# Altium integrated library Microchip PIC24F.IntLib: 529 symbols (part 27 of 32)
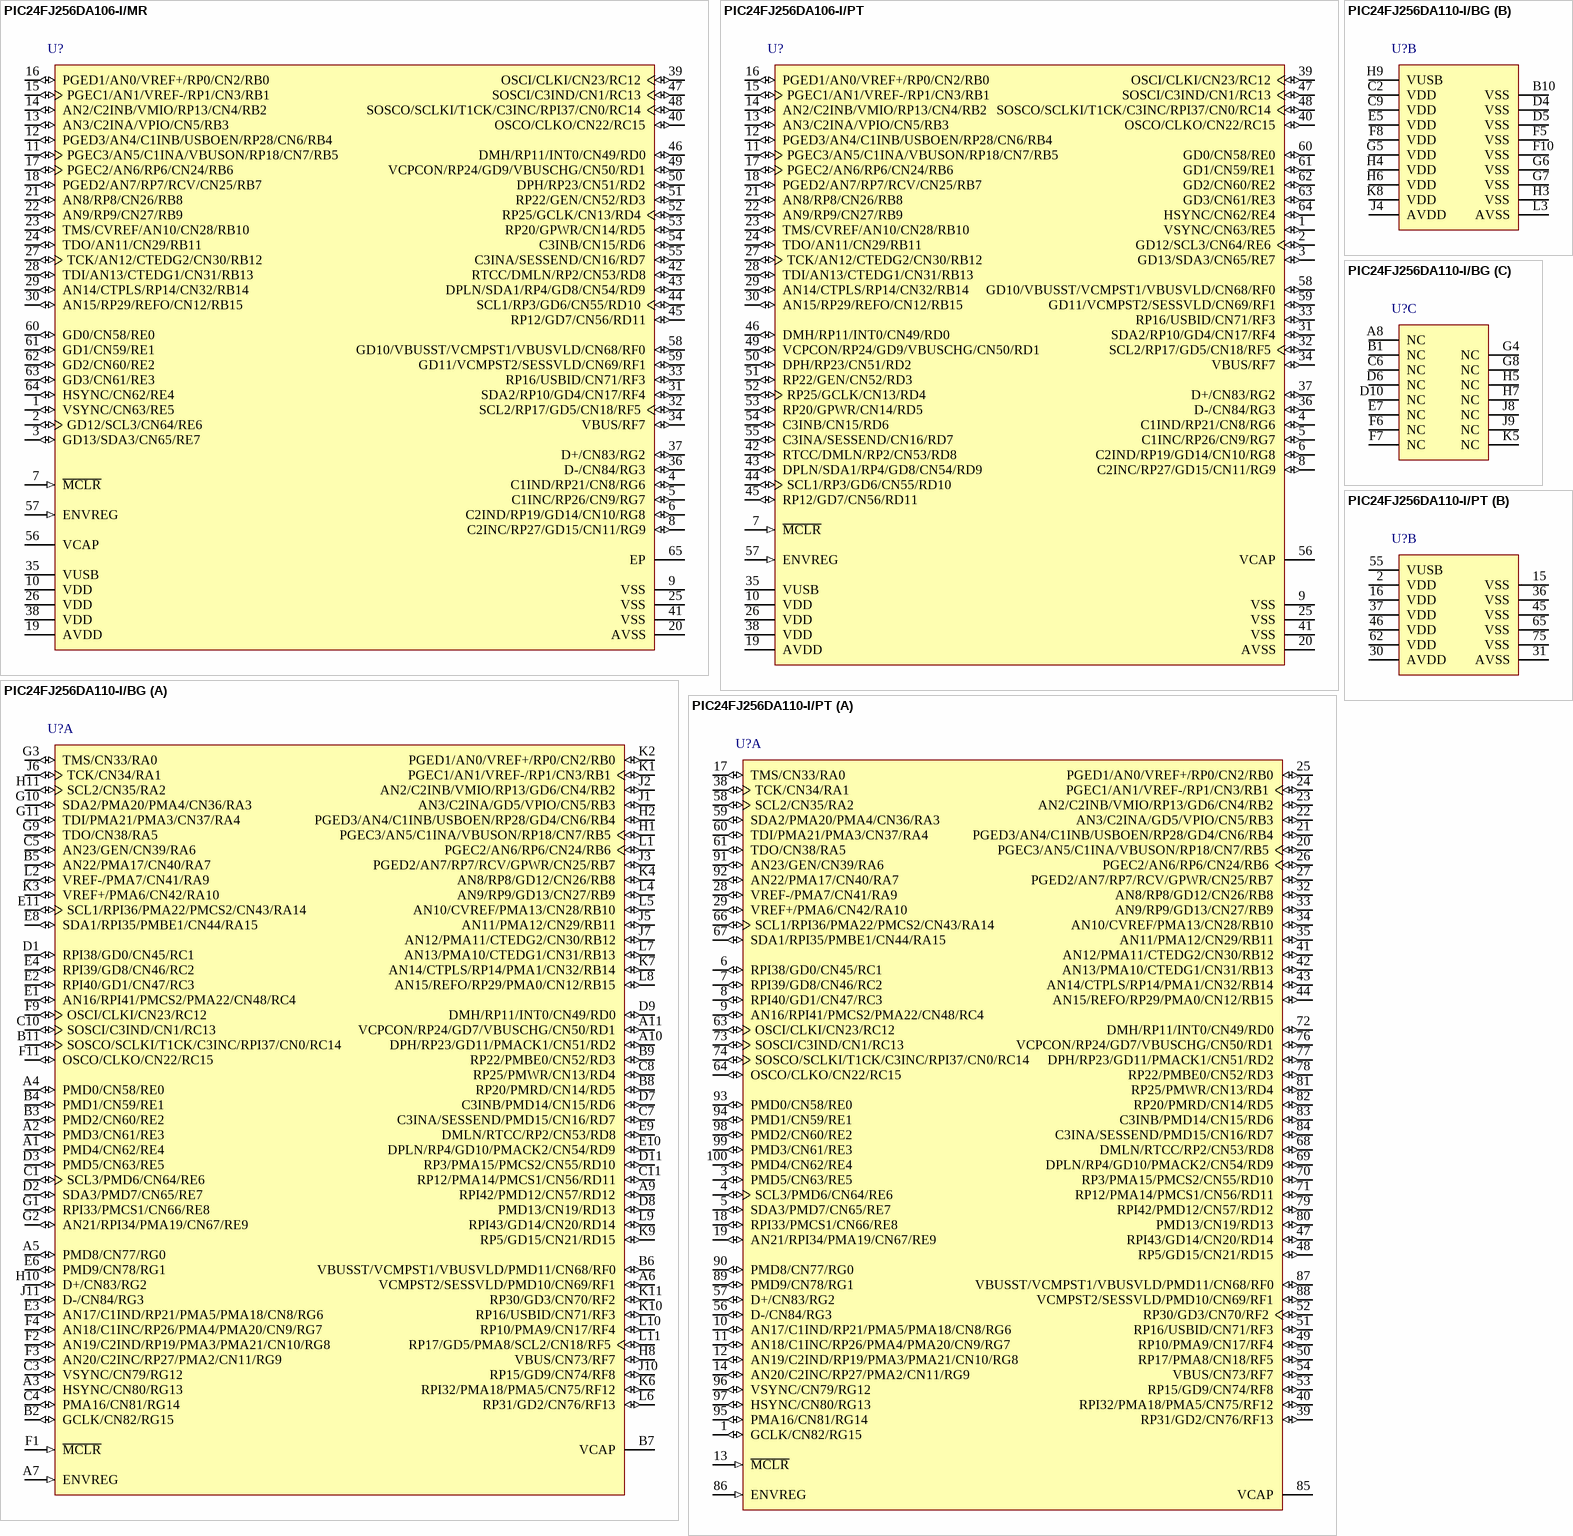
[diagram p147: symbols PIC24FJ256DA106-I/MR to PIC24FJ256DA110-I/PT]

## PIC24FJ256DA110-I/BG
designator U?
16-Bit Flash Microcontroller with Graphics Controller and USB On-The-Go, 16 MIPS, 84 I/O, EPMP, -40 to 85 degC, 121-pin TFBGA (BG121), Tray; Manufacturer: Microchip; PartNumber: PIC24FJ256DA110-I/BG; DatasheetVersion: Rev. B; PackageVersion: C04-148D; PackageReference: TFBGA-BG121; PackageDescription: 121-Ball Plastic Thin Profile Ball Grid Array, 10 x 10 mm Body, 0.8 mm Pitch; Supplier 1: Digi-Key; Supplier Part Number 1: PIC24FJ256DA110-I/BG-ND; Supplier 2: Farnell; Supplier Part Number 2: 1823276; Supplier 3: Mouser; Supplier Part Number 3: 579-PIC24FJ256DA110I; Mounting Technology: Surface Mount; ComponentLink1Description: Manufacturer URL; ComponentLink1URL: http://www.microchip.com; ComponentLink2Description: Datasheet; ComponentLink2URL: http://ww1.microchip.com/downloads/en/DeviceDoc/39969b.pdf; ComponentLink3Description: Package Specification; ComponentLink3URL: http://www.microchip.com/stellent/groups/techpub_sg/documents/packagingspec/en012702.pdf; ComponentLink4Description: Product URL; ComponentLink4URL: http://www.microchip.com/PIC24FJ256DA110
footprint MCHP-TFBGA-BG121 (BGA, 121-Balls, Body 10x10mm, Pitch 0.8mm)
part A pins: A1 PMD4/CN62/RE4 (io), A2 PMD3/CN61/RE3 (io), A3 HSYNC/CN80/RG13 (io), A4 PMD0/CN58/RE0 (io), A5 PMD8/CN77/RG0 (io), A6 VCMPST2/SESSVLD/PMD10/CN69/RF1 (io), A7 ENVREG (in), A9 RPI42/PMD12/CN57/RD12 (io), A10 DPH/RP23/GD11/PMACK1/CN51/RD2 (io), A11 VCPCON/RP24/GD7/VBUSCHG/CN50/RD1 (io), B2 GCLK/CN82/RG15 (io), B3 PMD2/CN60/RE2 (io), B4 PMD1/CN59/RE1 (io), B5 AN22/PMA17/CN40/RA7 (io), B6 VBUSST/VCMPST1/VBUSVLD/PMD11/CN68/RF0 (io), B7 VCAP "External Filter Capacitor Connection (regulator enabled).", B8 RP20/PMRD/CN14/RD5 (io), B9 RP22/PMBE0/CN52/RD3 (io), B11 SOSCO/SCLKI/T1CK/C3INC/RPI37/CN0/RC14 (io), C1 SCL3/PMD6/CN64/RE6 (io), C3 VSYNC/CN79/RG12 (io), C4 PMA16/CN81/RG14 (io), C5 AN23/GEN/CN39/RA6 (io), C7 C3INA/SESSEND/PMD15/CN16/RD7 (io), C8 RP25/PMWR/CN13/RD4 (io), C10 SOSCI/C3IND/CN1/RC13 (io), C11 RP12/PMA14/PMCS1/CN56/RD11 (io), D1 RPI38/GD0/CN45/RC1 (io), D2 SDA3/PMD7/CN65/RE7 (io), D3 PMD5/CN63/RE5 (io), D7 C3INB/PMD14/CN15/RD6 (io), D8 PMD13/CN19/RD13 (io), D9 DMH/RP11/INT0/CN49/RD0 (io), D11 RP3/PMA15/PMCS2/CN55/RD10 (io), E1 AN16/RPI41/PMCS2/PMA22/CN48/RC4 (io), E2 RPI40/GD1/CN47/RC3 (io), E3 AN17/C1IND/RP21/PMA5/PMA18/CN8/RG6 (io), E4 RPI39/GD8/CN46/RC2 (io), E6 PMD9/CN78/RG1 (io), E8 SDA1/RPI35/PMBE1/CN44/RA15 (io), E9 DMLN/RTCC/RP2/CN53/RD8 (io), E10 DPLN/RP4/GD10/PMACK2/CN54/RD9 (io), E11 SCL1/RPI36/PMA22/PMCS2/CN43/RA14 (io), F1 ~{MCLR} (in) "Master Clear (device Reset) Input. This line is brought low to cause a Reset.", F2 AN19/C2IND/RP19/PMA3/PMA21/CN10/RG8 (io), F3 AN20/C2INC/RP27/PMA2/CN11/RG9 (io), F4 AN18/C1INC/RP26/PMA4/PMA20/CN9/RG7 (io), F9 OSCI/CLKI/CN23/RC12 (io), F11 OSCO/CLKO/CN22/RC15 (io), G1 RPI33/PMCS1/CN66/RE8 (io), G2 AN21/RPI34/PMA19/CN67/RE9 (io), G3 TMS/CN33/RA0 (io), G9 TDO/CN38/RA5 (io), G10 SDA2/PMA20/PMA4/CN36/RA3 (io), G11 TDI/PMA21/PMA3/CN37/RA4 (io), H1 PGEC3/AN5/C1INA/VBUSON/RP18/CN7/RB5 (io), H2 PGED3/AN4/C1INB/USBOEN/RP28/GD4/CN6/RB4 (io), H8 VBUS/CN73/RF7 (io), H10 D+/CN83/RG2 (io), H11 SCL2/CN35/RA2 (io), J1 AN3/C2INA/GD5/VPIO/CN5/RB3 (io), J2 AN2/C2INB/VMIO/RP13/GD6/CN4/RB2 (io), J3 PGED2/AN7/RP7/RCV/GPWR/CN25/RB7 (io), J5 AN11/PMA12/CN29/RB11 (io), J6 TCK/CN34/RA1 (io), J7 AN12/PMA11/CTEDG2/CN30/RB12 (io), J10 RP15/GD9/CN74/RF8 (io), J11 D-/CN84/RG3 (io), K1 PGEC1/AN1/VREF-/RP1/CN3/RB1 (io), K2 PGED1/AN0/VREF+/RP0/CN2/RB0 (io), K3 VREF+/PMA6/CN42/RA10 (io), K4 AN8/RP8/GD12/CN26/RB8 (io), K6 RPI32/PMA18/PMA5/CN75/RF12 (io), K7 AN14/CTPLS/RP14/PMA1/CN32/RB14 (io), K9 RP5/GD15/CN21/RD15 (io), K10 RP16/USBID/CN71/RF3 (io), K11 RP30/GD3/CN70/RF2 (io), L1 PGEC2/AN6/RP6/CN24/RB6 (io), L2 VREF-/PMA7/CN41/RA9 (io), L4 AN9/RP9/GD13/CN27/RB9 (io), L5 AN10/CVREF/PMA13/CN28/RB10 (io), L6 RP31/GD2/CN76/RF13 (io), L7 AN13/PMA10/CTEDG1/CN31/RB13 (io), L8 AN15/REFO/RP29/PMA0/CN12/RB15 (io), L9 RPI43/GD14/CN20/RD14 (io), L10 RP10/PMA9/CN17/RF4 (io), L11 RP17/GD5/PMA8/SCL2/CN18/RF5 (io)
part B pins: B10 VSS (power) "Ground Reference for Logic and I/O Pins.", C2 VDD (power) "Positive Supply for Peripheral Digital Logic and I/O Pins.", C9 VDD (power) "Positive Supply for Peripheral Digital Logic and I/O Pins.", D4 VSS (power) "Ground Reference for Logic and I/O Pins.", D5 VSS (power) "Ground Reference for Logic and I/O Pins.", E5 VDD (power) "Positive Supply for Peripheral Digital Logic and I/O Pins.", F5 VSS (power) "Ground Reference for Logic and I/O Pins.", F8 VDD (power) "Positive Supply for Peripheral Digital Logic and I/O Pins.", F10 VSS (power) "Ground Reference for Logic and I/O Pins.", G5 VDD (power) "Positive Supply for Peripheral Digital Logic and I/O Pins.", G6 VSS (power) "Ground Reference for Logic and I/O Pins.", G7 VSS (power) "Ground Reference for Logic and I/O Pins.", H3 VSS (power) "Ground Reference for Logic and I/O Pins.", H4 VDD (power) "Positive Supply for Peripheral Digital Logic and I/O Pins.", H6 VDD (power) "Positive Supply for Peripheral Digital Logic and I/O Pins.", H9 VUSB (power) "USB Voltage (3.3V).", J4 AVDD (power) "Positive Supply for Analog modules.", K8 VDD (power) "Positive Supply for Peripheral Digital Logic and I/O Pins.", L3 AVSS "Ground Reference for Analog modules."
part C pins: A8 NC "No Connect", B1 NC "No Connect", C6 NC "No Connect", D6 NC "No Connect", D10 NC "No Connect", E7 NC "No Connect", F6 NC "No Connect", F7 NC "No Connect", G4 NC "No Connect", G8 NC "No Connect", H5 NC "No Connect", H7 NC "No Connect", J8 NC "No Connect", J9 NC "No Connect", K5 NC "No Connect"

## PIC24FJ256DA110-I/PT
designator U?
16-Bit Flash Microcontroller with Graphics Controller and USB On-The-Go, 16 MIPS, 84 I/O, EPMP, -40 to 85 degC, 100-pin TQFP (PT100), Tray; Manufacturer: Microchip; PartNumber: PIC24FJ256DA110-I/PT; DatasheetVersion: Rev. B; PackageVersion: C04-100B; PackageReference: TQFP-PT100; PackageDescription: 100-Lead Plastic Thin Quad Flatpack, 12 x 12 mm Body, 0.4 mm Pitch; Supplier 1: Digi-Key; Supplier Part Number 1: PIC24FJ256DA110-I/PT-ND; Supplier 2: Farnell; Supplier Part Number 2: 1823283; Supplier 3: Newark; Supplier Part Number 3: 73R8651; Supplier 4: Mouser; Supplier Part Number 4: 579-PIC24FJ256D10PT; Mounting Technology: Surface Mount; ComponentLink1Description: Manufacturer URL; ComponentLink1URL: http://www.microchip.com; ComponentLink2Description: Datasheet; ComponentLink2URL: http://ww1.microchip.com/downloads/en/DeviceDoc/39969b.pdf; ComponentLink3Description: Package Specification; ComponentLink3URL: http://www.microchip.com/stellent/groups/techpub_sg/documents/packagingspec/en012702.pdf; ComponentLink4Description: Product URL; ComponentLink4URL: http://www.microchip.com/PIC24FJ256DA110
footprint MCHP-TQFP-PT100_N (QFP, 100-Leads, Body 12x12mm, Pitch 0.4mm, IPC Medium Density)
footprint MCHP-TQFP-PT100_L (QFP, 100-Leads, Body 12x12mm, Pitch 0.4mm, IPC High Density)
footprint MCHP-TQFP-PT100_M (TQFP, 100-Leads, Body 12x12mm, Pitch 0.4mm, IPC Low Density)
part A pins: 1 GCLK/CN82/RG15 (io), 3 PMD5/CN63/RE5 (io), 4 SCL3/PMD6/CN64/RE6 (io), 5 SDA3/PMD7/CN65/RE7 (io), 6 RPI38/GD0/CN45/RC1 (io), 7 RPI39/GD8/CN46/RC2 (io), 8 RPI40/GD1/CN47/RC3 (io), 9 AN16/RPI41/PMCS2/PMA22/CN48/RC4 (io), 10 AN17/C1IND/RP21/PMA5/PMA18/CN8/RG6 (io), 11 AN18/C1INC/RP26/PMA4/PMA20/CN9/RG7 (io), 12 AN19/C2IND/RP19/PMA3/PMA21/CN10/RG8 (io), 13 ~{MCLR} (in) "Master Clear (device Reset) Input. This line is brought low to cause a Reset.", 14 AN20/C2INC/RP27/PMA2/CN11/RG9 (io), 17 TMS/CN33/RA0 (io), 18 RPI33/PMCS1/CN66/RE8 (io), 19 AN21/RPI34/PMA19/CN67/RE9 (io), 20 PGEC3/AN5/C1INA/VBUSON/RP18/CN7/RB5 (io), 21 PGED3/AN4/C1INB/USBOEN/RP28/GD4/CN6/RB4 (io), 22 AN3/C2INA/GD5/VPIO/CN5/RB3 (io), 23 AN2/C2INB/VMIO/RP13/GD6/CN4/RB2 (io), 24 PGEC1/AN1/VREF-/RP1/CN3/RB1 (io), 25 PGED1/AN0/VREF+/RP0/CN2/RB0 (io), 26 PGEC2/AN6/RP6/CN24/RB6 (io), 27 PGED2/AN7/RP7/RCV/GPWR/CN25/RB7 (io), 28 VREF-/PMA7/CN41/RA9 (io), 29 VREF+/PMA6/CN42/RA10 (io), 32 AN8/RP8/GD12/CN26/RB8 (io), 33 AN9/RP9/GD13/CN27/RB9 (io), 34 AN10/CVREF/PMA13/CN28/RB10 (io), 35 AN11/PMA12/CN29/RB11 (io), 38 TCK/CN34/RA1 (io), 39 RP31/GD2/CN76/RF13 (io), 40 RPI32/PMA18/PMA5/CN75/RF12 (io), 41 AN12/PMA11/CTEDG2/CN30/RB12 (io), 42 AN13/PMA10/CTEDG1/CN31/RB13 (io), 43 AN14/CTPLS/RP14/PMA1/CN32/RB14 (io), 44 AN15/REFO/RP29/PMA0/CN12/RB15 (io), 47 RPI43/GD14/CN20/RD14 (io), 48 RP5/GD15/CN21/RD15 (io), 49 RP10/PMA9/CN17/RF4 (io), 50 RP17/PMA8/CN18/RF5 (io), 51 RP16/USBID/CN71/RF3 (io), 52 RP30/GD3/CN70/RF2 (io), 53 RP15/GD9/CN74/RF8 (io), 54 VBUS/CN73/RF7 (io), 56 D-/CN84/RG3 (io), 57 D+/CN83/RG2 (io), 58 SCL2/CN35/RA2 (io), 59 SDA2/PMA20/PMA4/CN36/RA3 (io), 60 TDI/PMA21/PMA3/CN37/RA4 (io), 61 TDO/CN38/RA5 (io), 63 OSCI/CLKI/CN23/RC12 (io), 64 OSCO/CLKO/CN22/RC15 (io), 66 SCL1/RPI36/PMA22/PMCS2/CN43/RA14 (io), 67 SDA1/RPI35/PMBE1/CN44/RA15 (io), 68 DMLN/RTCC/RP2/CN53/RD8 (io), 69 DPLN/RP4/GD10/PMACK2/CN54/RD9 (io), 70 RP3/PMA15/PMCS2/CN55/RD10 (io), 71 RP12/PMA14/PMCS1/CN56/RD11 (io), 72 DMH/RP11/INT0/CN49/RD0 (io), 73 SOSCI/C3IND/CN1/RC13 (io), 74 SOSCO/SCLKI/T1CK/C3INC/RPI37/CN0/RC14 (io), 76 VCPCON/RP24/GD7/VBUSCHG/CN50/RD1 (io), 77 DPH/RP23/GD11/PMACK1/CN51/RD2 (io), 78 RP22/PMBE0/CN52/RD3 (io), 79 RPI42/PMD12/CN57/RD12 (io), 80 PMD13/CN19/RD13 (io), 81 RP25/PMWR/CN13/RD4 (io), 82 RP20/PMRD/CN14/RD5 (io), 83 C3INB/PMD14/CN15/RD6 (io), 84 C3INA/SESSEND/PMD15/CN16/RD7 (io), 85 VCAP "External Filter Capacitor Connection (regulator enabled).", 86 ENVREG (in) "Voltage Regulator Enable.", 87 VBUSST/VCMPST1/VBUSVLD/PMD11/CN68/RF0 (io), 88 VCMPST2/SESSVLD/PMD10/CN69/RF1 (io), 89 PMD9/CN78/RG1 (io), 90 PMD8/CN77/RG0 (io), 91 AN23/GEN/CN39/RA6 (io), 92 AN22/PMA17/CN40/RA7 (io), 93 PMD0/CN58/RE0 (io), 94 PMD1/CN59/RE1 (io), 95 PMA16/CN81/RG14 (io), 96 VSYNC/CN79/RG12 (io), 97 HSYNC/CN80/RG13 (io), 98 PMD2/CN60/RE2 (io), 99 PMD3/CN61/RE3 (io), 100 PMD4/CN62/RE4 (io)
part B pins: 2 VDD (power) "Positive Supply for Peripheral Digital Logic and I/O Pins.", 15 VSS (power) "Ground Reference for Logic and I/O Pins.", 16 VDD (power) "Positive Supply for Peripheral Digital Logic and I/O Pins.", 30 AVDD (power) "Positive Supply for Analog modules.", 31 AVSS (power) "Ground Reference for Analog modules", 36 VSS (power) "Ground Reference for Logic and I/O Pins.", 37 VDD (power) "Positive Supply for Peripheral Digital Logic and I/O Pins.", 45 VSS (power) "Ground Reference for Logic and I/O Pins.", 46 VDD (power) "Positive Supply for Peripheral Digital Logic and I/O Pins.", 55 VUSB (power) "USB Voltage (3.3V).", 62 VDD (power) "Positive Supply for Peripheral Digital Logic and I/O Pins.", 65 VSS (power) "Ground Reference for Logic and I/O Pins.", 75 VSS (power) "Ground Reference for Logic and I/O Pins."

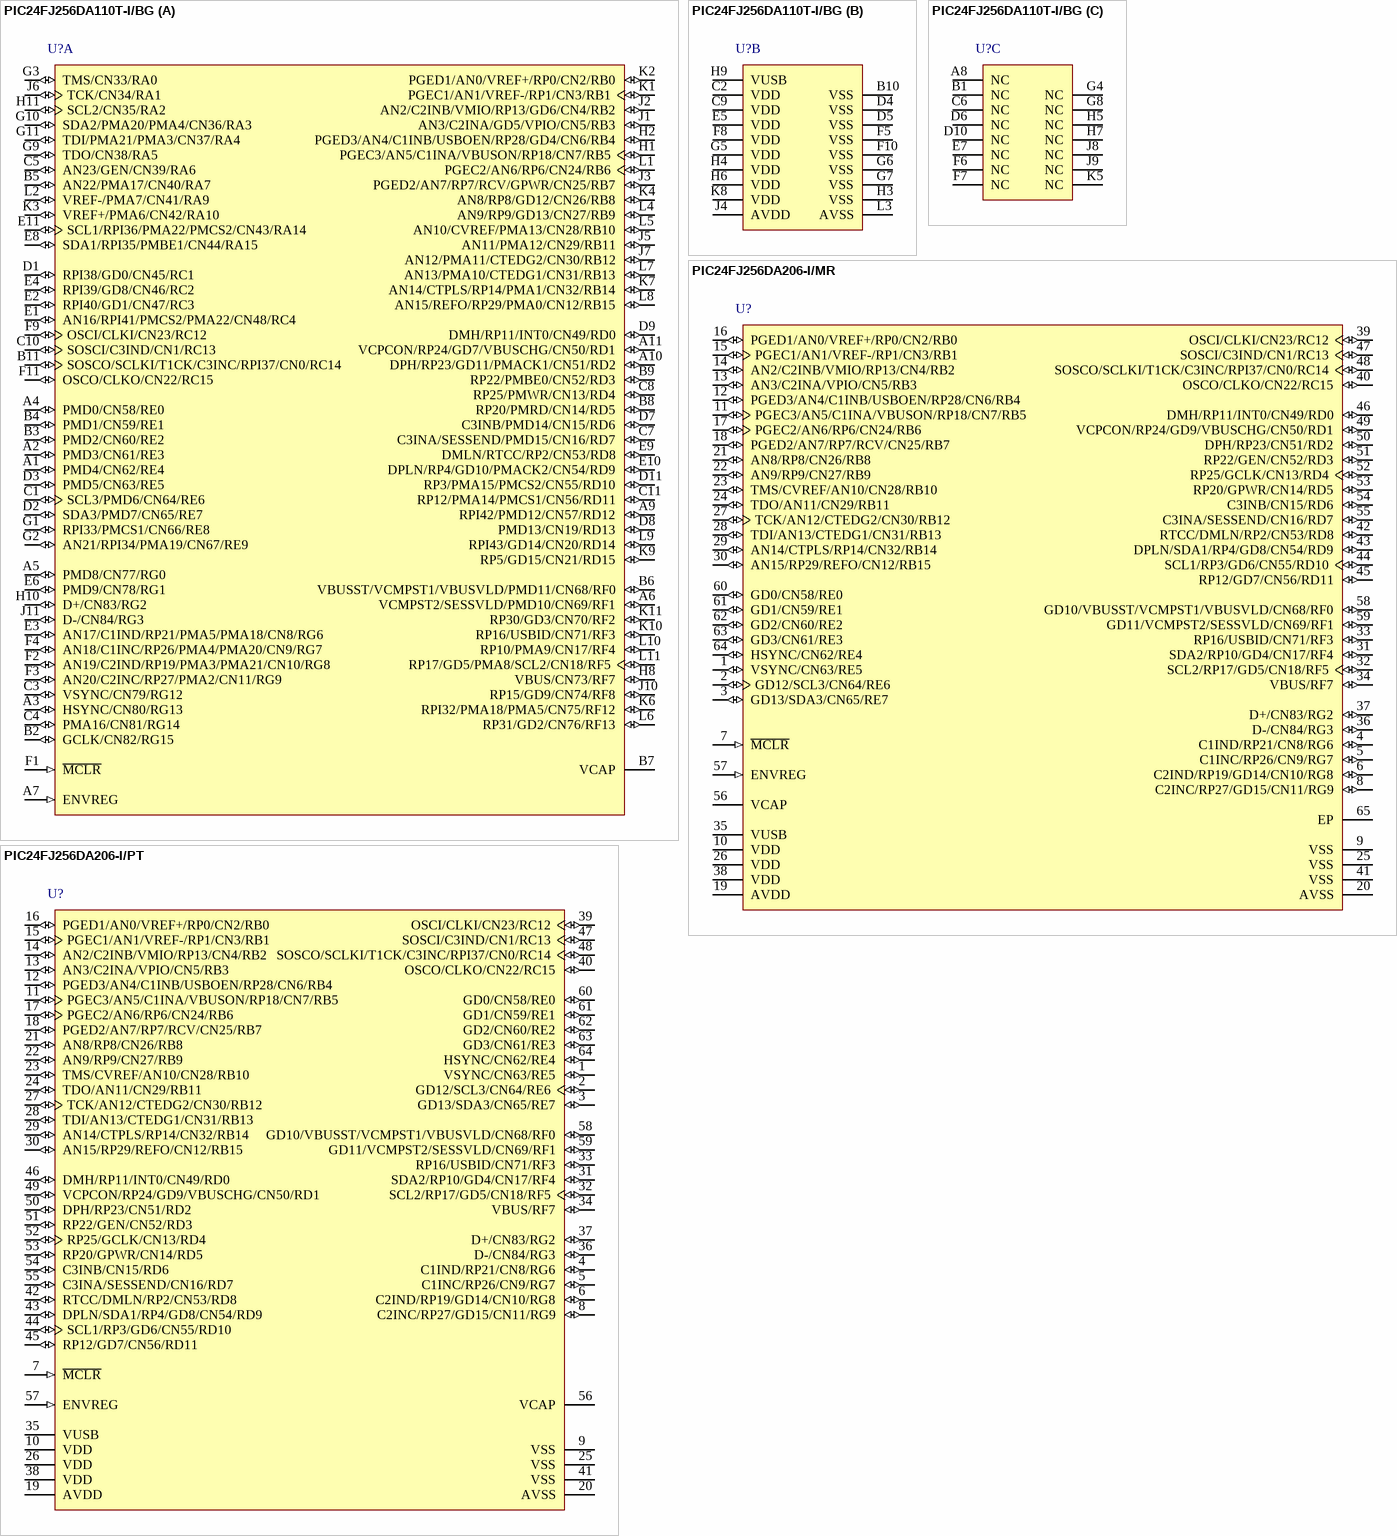
[diagram p101: symbols PIC24FJ256DA110T-I/BG to PIC24FJ256DA206-I/PT]

## PIC24FJ256DA110T-I/BG
designator U?
16-Bit Flash Microcontroller with Graphics Controller and USB On-The-Go, 16 MIPS, 84 I/O, EPMP, -40 to 85 degC, 121-pin TFBGA (BG121), Tape and Reel; Manufacturer: Microchip; PartNumber: PIC24FJ256DA110T-I/BG; DatasheetVersion: Rev. B; PackageVersion: C04-148D; PackageReference: TFBGA-BG121; PackageDescription: 121-Ball Plastic Thin Profile Ball Grid Array, 10 x 10 mm Body, 0.8 mm Pitch; Supplier 1: Digi-Key; Supplier Part Number 1: PIC24FJ256DA110T-I/BG-ND; Supplier 2: Mouser; Supplier Part Number 2: 579-PIC24FJDA110TIBG; Mounting Technology: Surface Mount; ComponentLink1Description: Manufacturer URL; ComponentLink1URL: http://www.microchip.com; ComponentLink2Description: Datasheet; ComponentLink2URL: http://ww1.microchip.com/downloads/en/DeviceDoc/39969b.pdf; ComponentLink3Description: Package Specification; ComponentLink3URL: http://www.microchip.com/stellent/groups/techpub_sg/documents/packagingspec/en012702.pdf; ComponentLink4Description: Product URL; ComponentLink4URL: http://www.microchip.com/PIC24FJ256DA110
footprint MCHP-TFBGA-BG121 (BGA, 121-Balls, Body 10x10mm, Pitch 0.8mm)
part A pins: A1 PMD4/CN62/RE4 (io), A2 PMD3/CN61/RE3 (io), A3 HSYNC/CN80/RG13 (io), A4 PMD0/CN58/RE0 (io), A5 PMD8/CN77/RG0 (io), A6 VCMPST2/SESSVLD/PMD10/CN69/RF1 (io), A7 ENVREG (in), A9 RPI42/PMD12/CN57/RD12 (io), A10 DPH/RP23/GD11/PMACK1/CN51/RD2 (io), A11 VCPCON/RP24/GD7/VBUSCHG/CN50/RD1 (io), B2 GCLK/CN82/RG15 (io), B3 PMD2/CN60/RE2 (io), B4 PMD1/CN59/RE1 (io), B5 AN22/PMA17/CN40/RA7 (io), B6 VBUSST/VCMPST1/VBUSVLD/PMD11/CN68/RF0 (io), B7 VCAP "External Filter Capacitor Connection (regulator enabled).", B8 RP20/PMRD/CN14/RD5 (io), B9 RP22/PMBE0/CN52/RD3 (io), B11 SOSCO/SCLKI/T1CK/C3INC/RPI37/CN0/RC14 (io), C1 SCL3/PMD6/CN64/RE6 (io), C3 VSYNC/CN79/RG12 (io), C4 PMA16/CN81/RG14 (io), C5 AN23/GEN/CN39/RA6 (io), C7 C3INA/SESSEND/PMD15/CN16/RD7 (io), C8 RP25/PMWR/CN13/RD4 (io), C10 SOSCI/C3IND/CN1/RC13 (io), C11 RP12/PMA14/PMCS1/CN56/RD11 (io), D1 RPI38/GD0/CN45/RC1 (io), D2 SDA3/PMD7/CN65/RE7 (io), D3 PMD5/CN63/RE5 (io), D7 C3INB/PMD14/CN15/RD6 (io), D8 PMD13/CN19/RD13 (io), D9 DMH/RP11/INT0/CN49/RD0 (io), D11 RP3/PMA15/PMCS2/CN55/RD10 (io), E1 AN16/RPI41/PMCS2/PMA22/CN48/RC4 (io), E2 RPI40/GD1/CN47/RC3 (io), E3 AN17/C1IND/RP21/PMA5/PMA18/CN8/RG6 (io), E4 RPI39/GD8/CN46/RC2 (io), E6 PMD9/CN78/RG1 (io), E8 SDA1/RPI35/PMBE1/CN44/RA15 (io), E9 DMLN/RTCC/RP2/CN53/RD8 (io), E10 DPLN/RP4/GD10/PMACK2/CN54/RD9 (io), E11 SCL1/RPI36/PMA22/PMCS2/CN43/RA14 (io), F1 ~{MCLR} (in) "Master Clear (device Reset) Input. This line is brought low to cause a Reset.", F2 AN19/C2IND/RP19/PMA3/PMA21/CN10/RG8 (io), F3 AN20/C2INC/RP27/PMA2/CN11/RG9 (io), F4 AN18/C1INC/RP26/PMA4/PMA20/CN9/RG7 (io), F9 OSCI/CLKI/CN23/RC12 (io), F11 OSCO/CLKO/CN22/RC15 (io), G1 RPI33/PMCS1/CN66/RE8 (io), G2 AN21/RPI34/PMA19/CN67/RE9 (io), G3 TMS/CN33/RA0 (io), G9 TDO/CN38/RA5 (io), G10 SDA2/PMA20/PMA4/CN36/RA3 (io), G11 TDI/PMA21/PMA3/CN37/RA4 (io), H1 PGEC3/AN5/C1INA/VBUSON/RP18/CN7/RB5 (io), H2 PGED3/AN4/C1INB/USBOEN/RP28/GD4/CN6/RB4 (io), H8 VBUS/CN73/RF7 (io), H10 D+/CN83/RG2 (io), H11 SCL2/CN35/RA2 (io), J1 AN3/C2INA/GD5/VPIO/CN5/RB3 (io), J2 AN2/C2INB/VMIO/RP13/GD6/CN4/RB2 (io), J3 PGED2/AN7/RP7/RCV/GPWR/CN25/RB7 (io), J5 AN11/PMA12/CN29/RB11 (io), J6 TCK/CN34/RA1 (io), J7 AN12/PMA11/CTEDG2/CN30/RB12 (io), J10 RP15/GD9/CN74/RF8 (io), J11 D-/CN84/RG3 (io), K1 PGEC1/AN1/VREF-/RP1/CN3/RB1 (io), K2 PGED1/AN0/VREF+/RP0/CN2/RB0 (io), K3 VREF+/PMA6/CN42/RA10 (io), K4 AN8/RP8/GD12/CN26/RB8 (io), K6 RPI32/PMA18/PMA5/CN75/RF12 (io), K7 AN14/CTPLS/RP14/PMA1/CN32/RB14 (io), K9 RP5/GD15/CN21/RD15 (io), K10 RP16/USBID/CN71/RF3 (io), K11 RP30/GD3/CN70/RF2 (io), L1 PGEC2/AN6/RP6/CN24/RB6 (io), L2 VREF-/PMA7/CN41/RA9 (io), L4 AN9/RP9/GD13/CN27/RB9 (io), L5 AN10/CVREF/PMA13/CN28/RB10 (io), L6 RP31/GD2/CN76/RF13 (io), L7 AN13/PMA10/CTEDG1/CN31/RB13 (io), L8 AN15/REFO/RP29/PMA0/CN12/RB15 (io), L9 RPI43/GD14/CN20/RD14 (io), L10 RP10/PMA9/CN17/RF4 (io), L11 RP17/GD5/PMA8/SCL2/CN18/RF5 (io)
part B pins: B10 VSS (power) "Ground Reference for Logic and I/O Pins.", C2 VDD (power) "Positive Supply for Peripheral Digital Logic and I/O Pins.", C9 VDD (power) "Positive Supply for Peripheral Digital Logic and I/O Pins.", D4 VSS (power) "Ground Reference for Logic and I/O Pins.", D5 VSS (power) "Ground Reference for Logic and I/O Pins.", E5 VDD (power) "Positive Supply for Peripheral Digital Logic and I/O Pins.", F5 VSS (power) "Ground Reference for Logic and I/O Pins.", F8 VDD (power) "Positive Supply for Peripheral Digital Logic and I/O Pins.", F10 VSS (power) "Ground Reference for Logic and I/O Pins.", G5 VDD (power) "Positive Supply for Peripheral Digital Logic and I/O Pins.", G6 VSS (power) "Ground Reference for Logic and I/O Pins.", G7 VSS (power) "Ground Reference for Logic and I/O Pins.", H3 VSS (power) "Ground Reference for Logic and I/O Pins.", H4 VDD (power) "Positive Supply for Peripheral Digital Logic and I/O Pins.", H6 VDD (power) "Positive Supply for Peripheral Digital Logic and I/O Pins.", H9 VUSB (power) "USB Voltage (3.3V).", J4 AVDD (power) "Positive Supply for Analog modules.", K8 VDD (power) "Positive Supply for Peripheral Digital Logic and I/O Pins.", L3 AVSS "Ground Reference for Analog modules."
part C pins: A8 NC "No Connect", B1 NC "No Connect", C6 NC "No Connect", D6 NC "No Connect", D10 NC "No Connect", E7 NC "No Connect", F6 NC "No Connect", F7 NC "No Connect", G4 NC "No Connect", G8 NC "No Connect", H5 NC "No Connect", H7 NC "No Connect", J8 NC "No Connect", J9 NC "No Connect", K5 NC "No Connect"

## PIC24FJ256DA206-I/MR
designator U?
16-Bit Flash Microcontroller with Graphics Controller and USB On-The-Go , 16 MIPS, 52 I/O, -40 to 85 degC, 64-pin QFN (MR64), Tube; Manufacturer: Microchip; PartNumber: PIC24FJ256DA206-I/MR; DatasheetVersion: Rev. B; PackageVersion: C04-149C; PackageReference: QFN-MR64; PackageDescription: 64-Lead Plastic Quad Flat, 9 x 9 mm Body, 0.5 mm Pitch; Supplier 1: Digi-Key; Supplier Part Number 1: PIC24FJ256DA206-I/MR-ND; Supplier 2: Farnell; Supplier Part Number 2: 1826235; Supplier 3: Mouser; Supplier Part Number 3: 579-PIC24FJ256DA20MR; Mounting Technology: Surface Mount; ComponentLink1Description: Manufacturer URL; ComponentLink1URL: http://www.microchip.com; ComponentLink2Description: Datasheet; ComponentLink2URL: http://ww1.microchip.com/downloads/en/DeviceDoc/39969b.pdf; ComponentLink3Description: Package Specification; ComponentLink3URL: http://www.microchip.com/stellent/groups/techpub_sg/documents/packagingspec/en012702.pdf; ComponentLink4Description: Product URL; ComponentLink4URL: http://www.microchip.com/PIC24FJ256DA206
footprint MCHP-QFN-MR64-7275X7275TP_N (QFN, 64-Leads, Body 9x9mm, Pitch 0.5mm, Thermal Pad 7.275x7.275mm, IPC Medium Density)
footprint MCHP-QFN-MR64-7275X7275TP_L (QFN, 64-Leads, Body 9x9mm, Pitch 0.5mm, Thermal Pad 7.275x7.275mm, IPC High Density)
footprint MCHP-QFN-MR64-7275X7275TP_M (QFN, 64-Leads, Body 9x9mm, Pitch 0.5mm, Thermal Pad 7.275x7.275mm, IPC Low Density)
pins: 1 VSYNC/CN63/RE5 (io), 2 GD12/SCL3/CN64/RE6 (io), 3 GD13/SDA3/CN65/RE7 (io), 4 C1IND/RP21/CN8/RG6 (io), 5 C1INC/RP26/CN9/RG7 (io), 6 C2IND/RP19/GD14/CN10/RG8 (io), 7 ~{MCLR} (in) "Master Clear (device Reset) Input. This line is brought low to cause a Reset.", 8 C2INC/RP27/GD15/CN11/RG9 (io), 9 VSS (power) "Ground Reference for Logic and I/O Pins.", 10 VDD (power) "Positive Supply for Peripheral Digital Logic and I/O Pins.", 11 PGEC3/AN5/C1INA/VBUSON/RP18/CN7/RB5 (io), 12 PGED3/AN4/C1INB/USBOEN/RP28/CN6/RB4 (io), 13 AN3/C2INA/VPIO/CN5/RB3 (io), 14 AN2/C2INB/VMIO/RP13/CN4/RB2 (io), 15 PGEC1/AN1/VREF-/RP1/CN3/RB1 (io), 16 PGED1/AN0/VREF+/RP0/CN2/RB0 (io), 17 PGEC2/AN6/RP6/CN24/RB6 (io), 18 PGED2/AN7/RP7/RCV/CN25/RB7 (io), 19 AVDD (power) "Positive Supply for Analog modules.", 20 AVSS (power) "Ground Reference for Analog modules.", 21 AN8/RP8/CN26/RB8 (io), 22 AN9/RP9/CN27/RB9 (io), 23 TMS/CVREF/AN10/CN28/RB10 (io), 24 TDO/AN11/CN29/RB11 (io), 25 VSS (power) "Ground Reference for Logic and I/O Pins.", 26 VDD (power) "Positive Supply for Peripheral Digital Logic and I/O Pins.", 27 TCK/AN12/CTEDG2/CN30/RB12 (io), 28 TDI/AN13/CTEDG1/CN31/RB13 (io), 29 AN14/CTPLS/RP14/CN32/RB14 (io), 30 AN15/RP29/REFO/CN12/RB15 (io), 31 SDA2/RP10/GD4/CN17/RF4 (io), 32 SCL2/RP17/GD5/CN18/RF5 (io), 33 RP16/USBID/CN71/RF3 (io), 34 VBUS/RF7 (io), 35 VUSB (power) "USB Voltage (3.3V).", 36 D-/CN84/RG3 (io), 37 D+/CN83/RG2 (io), 38 VDD (power) "Positive Supply for Peripheral Digital Logic and I/O Pins.", 39 OSCI/CLKI/CN23/RC12 (io), 40 OSCO/CLKO/CN22/RC15 (io), 41 VSS (power) "Ground Reference for Logic and I/O Pins.", 42 RTCC/DMLN/RP2/CN53/RD8 (io), 43 DPLN/SDA1/RP4/GD8/CN54/RD9 (io), 44 SCL1/RP3/GD6/CN55/RD10 (io), 45 RP12/GD7/CN56/RD11 (io), 46 DMH/RP11/INT0/CN49/RD0 (io), 47 SOSCI/C3IND/CN1/RC13 (io), 48 SOSCO/SCLKI/T1CK/C3INC/RPI37/CN0/RC14 (io), 49 VCPCON/RP24/GD9/VBUSCHG/CN50/RD1 (io), 50 DPH/RP23/CN51/RD2 (io), 51 RP22/GEN/CN52/RD3 (io), 52 RP25/GCLK/CN13/RD4 (io), 53 RP20/GPWR/CN14/RD5 (io), 54 C3INB/CN15/RD6 (io), 55 C3INA/SESSEND/CN16/RD7 (io), 56 VCAP "External Filter Capacitor Connection (regulator enabled).", 57 ENVREG (in) "Voltage Regulator Enable.", 58 GD10/VBUSST/VCMPST1/VBUSVLD/CN68/RF0 (io), 59 GD11/VCMPST2/SESSVLD/CN69/RF1 (io), 60 GD0/CN58/RE0 (io), 61 GD1/CN59/RE1 (io), 62 GD2/CN60/RE2 (io), 63 GD3/CN61/RE3 (io), 64 HSYNC/CN62/RE4 (io), 65 EP (power) "The back pad on QFN devices should be connected to VSS."

## PIC24FJ256DA206-I/PT
designator U?
16-Bit Flash Microcontroller with Graphics Controller and USB On-The-Go , 16 MIPS, 52 I/O, -40 to 85 degC, 64-pin TQFP (PT64), Tray; Manufacturer: Microchip; PartNumber: PIC24FJ256DA206-I/PT; DatasheetVersion: Rev. B; PackageVersion: C04-085B; PackageReference: TQFP-PT64; PackageDescription: 64-Lead Plastic Thin Quad FlatPack, 10 x 10 mm Body, 0.5 mm Pitch; Supplier 1: Digi-Key; Supplier Part Number 1: PIC24FJ256DA206-I/PT-ND; Supplier 2: Farnell; Supplier Part Number 2: 1823149MPKG; Supplier 3: Farnell; Supplier Part Number 3: 1823149; Supplier 4: Newark; Supplier Part Number 4: 73R8655; Supplier 5: Mouser; Supplier Part Number 5: 579-PIC24FJ256DA206I; Mounting Technology: Surface Mount; ComponentLink1Description: Manufacturer URL; ComponentLink1URL: http://www.microchip.com; ComponentLink2Description: Datasheet; ComponentLink2URL: http://ww1.microchip.com/downloads/en/DeviceDoc/39969b.pdf; ComponentLink3Description: Package Specification; ComponentLink3URL: http://www.microchip.com/stellent/groups/techpub_sg/documents/packagingspec/en012702.pdf; ComponentLink4Description: Product URL; ComponentLink4URL: http://www.microchip.com/PIC24FJ256DA206
footprint MCHP-TQFP-PT64_N (TQFP, 64-Leads, Body 10x10mm, Pitch 0.5mm, IPC Medium Density)
footprint MCHP-TQFP-PT64_L (TQFP, 64-Leads, Body 10x10mm, Pitch 0.5mm, IPC High Density)
footprint MCHP-TQFP-PT64_M (TQFP, 64-Leads, Body 10x10mm, Pitch 0.5mm, IPC Low Density)
pins: 1 VSYNC/CN63/RE5 (io), 2 GD12/SCL3/CN64/RE6 (io), 3 GD13/SDA3/CN65/RE7 (io), 4 C1IND/RP21/CN8/RG6 (io), 5 C1INC/RP26/CN9/RG7 (io), 6 C2IND/RP19/GD14/CN10/RG8 (io), 7 ~{MCLR} (in) "Master Clear (device Reset) Input. This line is brought low to cause a Reset.", 8 C2INC/RP27/GD15/CN11/RG9 (io), 9 VSS (power) "Ground Reference for Logic and I/O Pins.", 10 VDD (power) "Positive Supply for Peripheral Digital Logic and I/O Pins.", 11 PGEC3/AN5/C1INA/VBUSON/RP18/CN7/RB5 (io), 12 PGED3/AN4/C1INB/USBOEN/RP28/CN6/RB4 (io), 13 AN3/C2INA/VPIO/CN5/RB3 (io), 14 AN2/C2INB/VMIO/RP13/CN4/RB2 (io), 15 PGEC1/AN1/VREF-/RP1/CN3/RB1 (io), 16 PGED1/AN0/VREF+/RP0/CN2/RB0 (io), 17 PGEC2/AN6/RP6/CN24/RB6 (io), 18 PGED2/AN7/RP7/RCV/CN25/RB7 (io), 19 AVDD (power) "Positive Supply for Analog modules.", 20 AVSS (power) "Ground Reference for Analog modules", 21 AN8/RP8/CN26/RB8 (io), 22 AN9/RP9/CN27/RB9 (io), 23 TMS/CVREF/AN10/CN28/RB10 (io), 24 TDO/AN11/CN29/RB11 (io), 25 VSS (power) "Ground Reference for Logic and I/O Pins.", 26 VDD (power) "Positive Supply for Peripheral Digital Logic and I/O Pins.", 27 TCK/AN12/CTEDG2/CN30/RB12 (io), 28 TDI/AN13/CTEDG1/CN31/RB13 (io), 29 AN14/CTPLS/RP14/CN32/RB14 (io), 30 AN15/RP29/REFO/CN12/RB15 (io), 31 SDA2/RP10/GD4/CN17/RF4 (io), 32 SCL2/RP17/GD5/CN18/RF5 (io), 33 RP16/USBID/CN71/RF3 (io), 34 VBUS/RF7 (io), 35 VUSB (power) "USB Voltage (3.3V).", 36 D-/CN84/RG3 (io), 37 D+/CN83/RG2 (io), 38 VDD (power) "Positive Supply for Peripheral Digital Logic and I/O Pins.", 39 OSCI/CLKI/CN23/RC12 (io), 40 OSCO/CLKO/CN22/RC15 (io), 41 VSS (power) "Ground Reference for Logic and I/O Pins.", 42 RTCC/DMLN/RP2/CN53/RD8 (io), 43 DPLN/SDA1/RP4/GD8/CN54/RD9 (io), 44 SCL1/RP3/GD6/CN55/RD10 (io), 45 RP12/GD7/CN56/RD11 (io), 46 DMH/RP11/INT0/CN49/RD0 (io), 47 SOSCI/C3IND/CN1/RC13 (io), 48 SOSCO/SCLKI/T1CK/C3INC/RPI37/CN0/RC14 (io), 49 VCPCON/RP24/GD9/VBUSCHG/CN50/RD1 (io), 50 DPH/RP23/CN51/RD2 (io), 51 RP22/GEN/CN52/RD3 (io), 52 RP25/GCLK/CN13/RD4 (io), 53 RP20/GPWR/CN14/RD5 (io), 54 C3INB/CN15/RD6 (io), 55 C3INA/SESSEND/CN16/RD7 (io), 56 VCAP "External Filter Capacitor Connection (regulator enabled).", 57 ENVREG (in) "Voltage Regulator Enable.", 58 GD10/VBUSST/VCMPST1/VBUSVLD/CN68/RF0 (io), 59 GD11/VCMPST2/SESSVLD/CN69/RF1 (io), 60 GD0/CN58/RE0 (io), 61 GD1/CN59/RE1 (io), 62 GD2/CN60/RE2 (io), 63 GD3/CN61/RE3 (io), 64 HSYNC/CN62/RE4 (io)

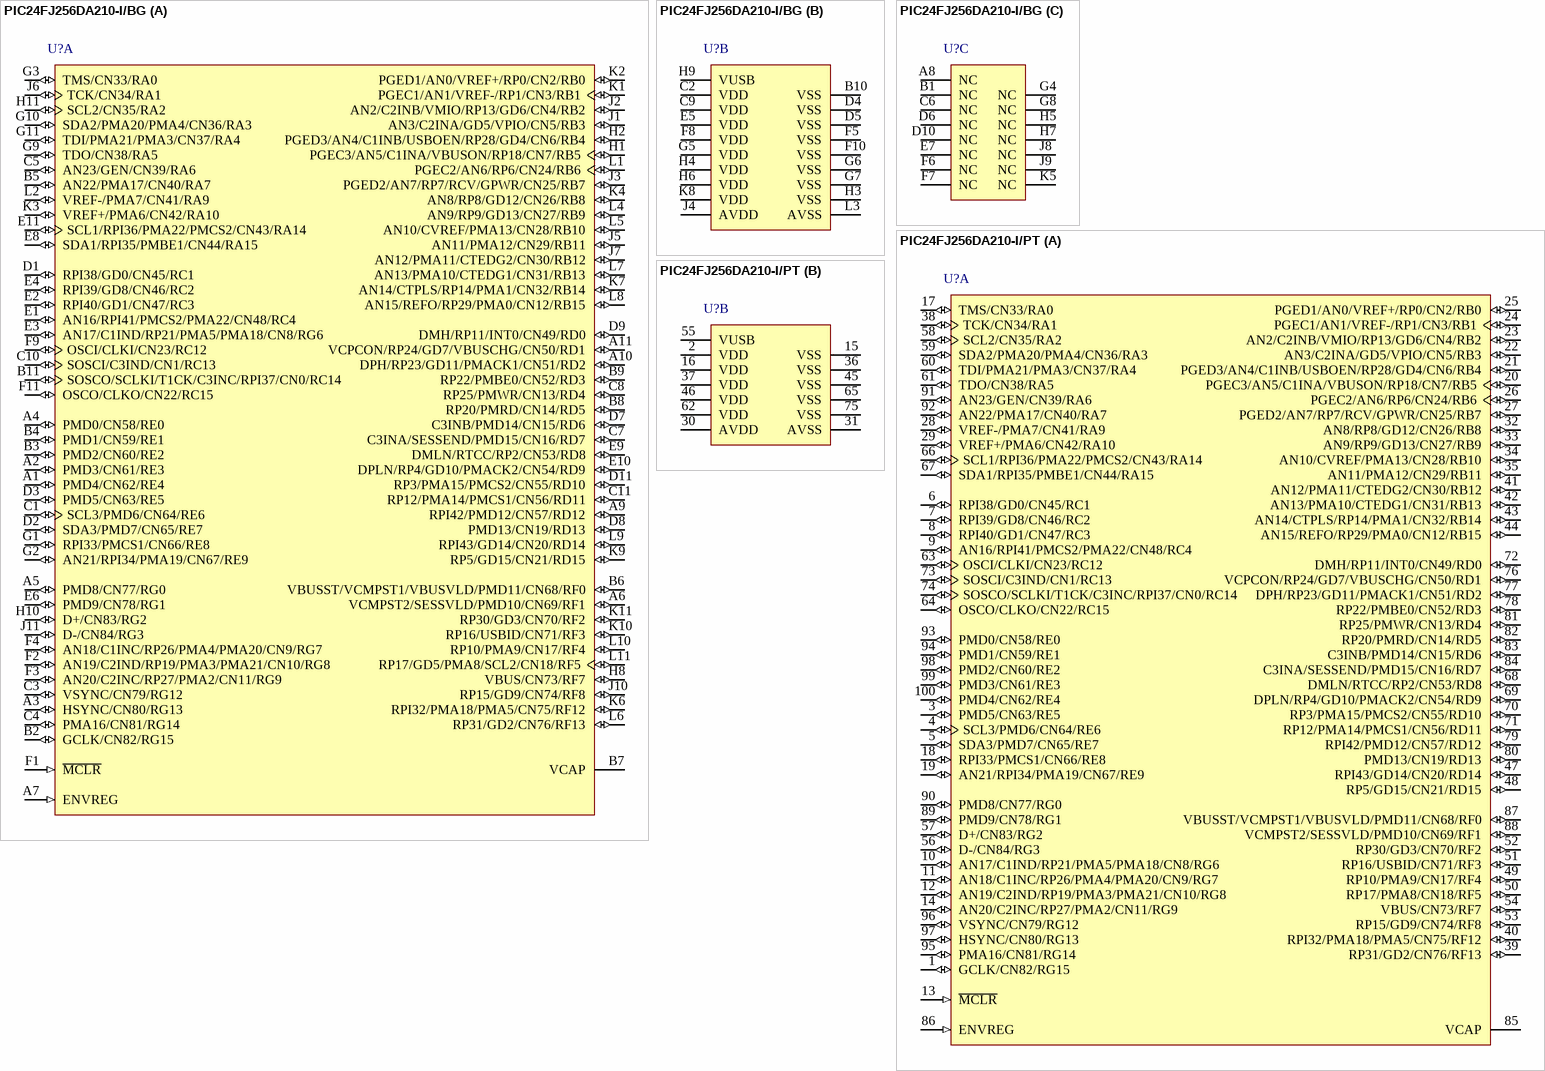
[diagram p102: symbols PIC24FJ256DA210-I/BG to PIC24FJ256DA210-I/PT]

## PIC24FJ256DA210-I/BG
designator U?
16-Bit Flash Microcontroller with Graphics Controller and USB On-The-Go, 16 MIPS, 84 I/O, EPMP, -40 to 85 degC, 121-pin TFBGA (BG121), Tray; Manufacturer: Microchip; PartNumber: PIC24FJ256DA210-I/BG; DatasheetVersion: Rev. B; PackageVersion: C04-148D; PackageReference: TFBGA-BG121; PackageDescription: 121-Ball Plastic Thin Profile Ball Grid Array, 10 x 10 mm Body, 0.8 mm Pitch; Supplier 1: Digi-Key; Supplier Part Number 1: PIC24FJ256DA210-I/BG-ND; Supplier 2: Farnell; Supplier Part Number 2: 1823274; Supplier 3: Newark; Supplier Part Number 3: 65T6696; Supplier 4: Mouser; Supplier Part Number 4: 579-PIC24FJ256DA210G; Mounting Technology: Surface Mount; ComponentLink1Description: Manufacturer URL; ComponentLink1URL: http://www.microchip.com; ComponentLink2Description: Datasheet; ComponentLink2URL: http://ww1.microchip.com/downloads/en/DeviceDoc/39969b.pdf; ComponentLink3Description: Package Specification; ComponentLink3URL: http://www.microchip.com/stellent/groups/techpub_sg/documents/packagingspec/en012702.pdf; ComponentLink4Description: Product URL; ComponentLink4URL: http://www.microchip.com/PIC24FJ256DA210
footprint MCHP-TFBGA-BG121 (BGA, 121-Balls, Body 10x10mm, Pitch 0.8mm)
part A pins: A1 PMD4/CN62/RE4 (io), A2 PMD3/CN61/RE3 (io), A3 HSYNC/CN80/RG13 (io), A4 PMD0/CN58/RE0 (io), A5 PMD8/CN77/RG0 (io), A6 VCMPST2/SESSVLD/PMD10/CN69/RF1 (io), A7 ENVREG (in) "Voltage Regulator Enable.", A9 RPI42/PMD12/CN57/RD12 (io), A10 DPH/RP23/GD11/PMACK1/CN51/RD2 (io), A11 VCPCON/RP24/GD7/VBUSCHG/CN50/RD1 (io), B2 GCLK/CN82/RG15 (io), B3 PMD2/CN60/RE2 (io), B4 PMD1/CN59/RE1 (io), B5 AN22/PMA17/CN40/RA7 (io), B6 VBUSST/VCMPST1/VBUSVLD/PMD11/CN68/RF0 (io), B7 VCAP "External Filter Capacitor Connection (regulator enabled).", B8 RP20/PMRD/CN14/RD5 (io), B9 RP22/PMBE0/CN52/RD3 (io), B11 SOSCO/SCLKI/T1CK/C3INC/RPI37/CN0/RC14 (io), C1 SCL3/PMD6/CN64/RE6 (io), C3 VSYNC/CN79/RG12 (io), C4 PMA16/CN81/RG14 (io), C5 AN23/GEN/CN39/RA6 (io), C7 C3INA/SESSEND/PMD15/CN16/RD7 (io), C8 RP25/PMWR/CN13/RD4 (io), C10 SOSCI/C3IND/CN1/RC13 (io), C11 RP12/PMA14/PMCS1/CN56/RD11 (io), D1 RPI38/GD0/CN45/RC1 (io), D2 SDA3/PMD7/CN65/RE7 (io), D3 PMD5/CN63/RE5 (io), D7 C3INB/PMD14/CN15/RD6 (io), D8 PMD13/CN19/RD13 (io), D9 DMH/RP11/INT0/CN49/RD0 (io), D11 RP3/PMA15/PMCS2/CN55/RD10 (io), E1 AN16/RPI41/PMCS2/PMA22/CN48/RC4 (io), E2 RPI40/GD1/CN47/RC3 (io), E3 AN17/C1IND/RP21/PMA5/PMA18/CN8/RG6 (io), E4 RPI39/GD8/CN46/RC2 (io), E6 PMD9/CN78/RG1 (io), E8 SDA1/RPI35/PMBE1/CN44/RA15 (io), E9 DMLN/RTCC/RP2/CN53/RD8 (io), E10 DPLN/RP4/GD10/PMACK2/CN54/RD9 (io), E11 SCL1/RPI36/PMA22/PMCS2/CN43/RA14 (io), F1 ~{MCLR} (in) "Master Clear (device Reset) Input. This line is brought low to cause a Reset.", F2 AN19/C2IND/RP19/PMA3/PMA21/CN10/RG8 (io), F3 AN20/C2INC/RP27/PMA2/CN11/RG9 (io), F4 AN18/C1INC/RP26/PMA4/PMA20/CN9/RG7 (io), F9 OSCI/CLKI/CN23/RC12 (io), F11 OSCO/CLKO/CN22/RC15 (io), G1 RPI33/PMCS1/CN66/RE8 (io), G2 AN21/RPI34/PMA19/CN67/RE9 (io), G3 TMS/CN33/RA0 (io), G9 TDO/CN38/RA5 (io), G10 SDA2/PMA20/PMA4/CN36/RA3 (io), G11 TDI/PMA21/PMA3/CN37/RA4 (io), H1 PGEC3/AN5/C1INA/VBUSON/RP18/CN7/RB5 (io), H2 PGED3/AN4/C1INB/USBOEN/RP28/GD4/CN6/RB4 (io), H8 VBUS/CN73/RF7 (io), H10 D+/CN83/RG2 (io), H11 SCL2/CN35/RA2 (io), J1 AN3/C2INA/GD5/VPIO/CN5/RB3 (io), J2 AN2/C2INB/VMIO/RP13/GD6/CN4/RB2 (io), J3 PGED2/AN7/RP7/RCV/GPWR/CN25/RB7 (io), J5 AN11/PMA12/CN29/RB11 (io), J6 TCK/CN34/RA1 (io), J7 AN12/PMA11/CTEDG2/CN30/RB12 (io), J10 RP15/GD9/CN74/RF8 (io), J11 D-/CN84/RG3 (io), K1 PGEC1/AN1/VREF-/RP1/CN3/RB1 (io), K2 PGED1/AN0/VREF+/RP0/CN2/RB0 (io), K3 VREF+/PMA6/CN42/RA10 (io), K4 AN8/RP8/GD12/CN26/RB8 (io), K6 RPI32/PMA18/PMA5/CN75/RF12 (io), K7 AN14/CTPLS/RP14/PMA1/CN32/RB14 (io), K9 RP5/GD15/CN21/RD15 (io), K10 RP16/USBID/CN71/RF3 (io), K11 RP30/GD3/CN70/RF2 (io), L1 PGEC2/AN6/RP6/CN24/RB6 (io), L2 VREF-/PMA7/CN41/RA9 (io), L4 AN9/RP9/GD13/CN27/RB9 (io), L5 AN10/CVREF/PMA13/CN28/RB10 (io), L6 RP31/GD2/CN76/RF13 (io), L7 AN13/PMA10/CTEDG1/CN31/RB13 (io), L8 AN15/REFO/RP29/PMA0/CN12/RB15 (io), L9 RPI43/GD14/CN20/RD14 (io), L10 RP10/PMA9/CN17/RF4 (io), L11 RP17/GD5/PMA8/SCL2/CN18/RF5 (io)
part B pins: B10 VSS (power) "Ground Reference for Logic and I/O Pins.", C2 VDD (power) "Positive Supply for Peripheral Digital Logic and I/O Pins.", C9 VDD (power) "Positive Supply for Peripheral Digital Logic and I/O Pins.", D4 VSS (power) "Ground Reference for Logic and I/O Pins.", D5 VSS (power) "Ground Reference for Logic and I/O Pins.", E5 VDD (power) "Positive Supply for Peripheral Digital Logic and I/O Pins.", F5 VSS (power) "Ground Reference for Logic and I/O Pins.", F8 VDD (power) "Positive Supply for Peripheral Digital Logic and I/O Pins.", F10 VSS (power) "Ground Reference for Logic and I/O Pins.", G5 VDD (power) "Positive Supply for Peripheral Digital Logic and I/O Pins.", G6 VSS (power) "Ground Reference for Logic and I/O Pins.", G7 VSS (power) "Ground Reference for Logic and I/O Pins.", H3 VSS (power) "Ground Reference for Logic and I/O Pins.", H4 VDD (power) "Positive Supply for Peripheral Digital Logic and I/O Pins.", H6 VDD (power) "Positive Supply for Peripheral Digital Logic and I/O Pins.", H9 VUSB (power) "USB Voltage (3.3V).", J4 AVDD (power) "Positive Supply for Analog modules.", K8 VDD (power) "Positive Supply for Peripheral Digital Logic and I/O Pins.", L3 AVSS (power) "Ground Reference for Analog modules."
part C pins: A8 NC, B1 NC, C6 NC, D6 NC, D10 NC, E7 NC, F6 NC, F7 NC, G4 NC, G8 NC, H5 NC, H7 NC, J8 NC, J9 NC, K5 NC

## PIC24FJ256DA210-I/PT
designator U?
16-Bit Flash Microcontroller with Graphics Controller and USB On-The-Go, 16 MIPS, 84 I/O, EPMP, -40 to 85 degC, 100-pin TQFP (PT100), Tray; Manufacturer: Microchip; PartNumber: PIC24FJ256DA210-I/PT; DatasheetVersion: Rev. B; PackageVersion: C04-100B; PackageReference: TQFP-PT100; PackageDescription: 100-Lead Plastic Thin Quad Flatpack, 12 x 12 mm Body, 0.4 mm Pitch; Supplier 1: Digi-Key; Supplier Part Number 1: PIC24FJ256DA210-I/PT-ND; Supplier 2: Farnell; Supplier Part Number 2: 1823150; Supplier 3: Newark; Supplier Part Number 3: 73R8659; Supplier 4: Mouser; Supplier Part Number 4: 579-PIC24FJ256D10IPT; Mounting Technology: Surface Mount; ComponentLink1Description: Manufacturer URL; ComponentLink1URL: http://www.microchip.com; ComponentLink2Description: Datasheet; ComponentLink2URL: http://ww1.microchip.com/downloads/en/DeviceDoc/39969b.pdf; ComponentLink3Description: Package Specification; ComponentLink3URL: http://www.microchip.com/stellent/groups/techpub_sg/documents/packagingspec/en012702.pdf; ComponentLink4Description: Product URL; ComponentLink4URL: http://www.microchip.com/PIC24FJ256DA210
footprint MCHP-TQFP-PT100_N (QFP, 100-Leads, Body 12x12mm, Pitch 0.4mm, IPC Medium Density)
footprint MCHP-TQFP-PT100_L (QFP, 100-Leads, Body 12x12mm, Pitch 0.4mm, IPC High Density)
footprint MCHP-TQFP-PT100_M (TQFP, 100-Leads, Body 12x12mm, Pitch 0.4mm, IPC Low Density)
part A pins: 1 GCLK/CN82/RG15 (io), 3 PMD5/CN63/RE5 (io), 4 SCL3/PMD6/CN64/RE6 (io), 5 SDA3/PMD7/CN65/RE7 (io), 6 RPI38/GD0/CN45/RC1 (io), 7 RPI39/GD8/CN46/RC2 (io), 8 RPI40/GD1/CN47/RC3 (io), 9 AN16/RPI41/PMCS2/PMA22/CN48/RC4 (io), 10 AN17/C1IND/RP21/PMA5/PMA18/CN8/RG6 (io), 11 AN18/C1INC/RP26/PMA4/PMA20/CN9/RG7 (io), 12 AN19/C2IND/RP19/PMA3/PMA21/CN10/RG8 (io), 13 ~{MCLR} (in) "Master Clear (device Reset) Input. This line is brought low to cause a Reset.", 14 AN20/C2INC/RP27/PMA2/CN11/RG9 (io), 17 TMS/CN33/RA0 (io), 18 RPI33/PMCS1/CN66/RE8 (io), 19 AN21/RPI34/PMA19/CN67/RE9 (io), 20 PGEC3/AN5/C1INA/VBUSON/RP18/CN7/RB5 (io), 21 PGED3/AN4/C1INB/USBOEN/RP28/GD4/CN6/RB4 (io), 22 AN3/C2INA/GD5/VPIO/CN5/RB3 (io), 23 AN2/C2INB/VMIO/RP13/GD6/CN4/RB2 (io), 24 PGEC1/AN1/VREF-/RP1/CN3/RB1 (io), 25 PGED1/AN0/VREF+/RP0/CN2/RB0 (io), 26 PGEC2/AN6/RP6/CN24/RB6 (io), 27 PGED2/AN7/RP7/RCV/GPWR/CN25/RB7 (io), 28 VREF-/PMA7/CN41/RA9 (io), 29 VREF+/PMA6/CN42/RA10 (io), 32 AN8/RP8/GD12/CN26/RB8 (io), 33 AN9/RP9/GD13/CN27/RB9 (io), 34 AN10/CVREF/PMA13/CN28/RB10 (io), 35 AN11/PMA12/CN29/RB11 (io), 38 TCK/CN34/RA1 (io), 39 RP31/GD2/CN76/RF13 (io), 40 RPI32/PMA18/PMA5/CN75/RF12 (io), 41 AN12/PMA11/CTEDG2/CN30/RB12 (io), 42 AN13/PMA10/CTEDG1/CN31/RB13 (io), 43 AN14/CTPLS/RP14/PMA1/CN32/RB14 (io), 44 AN15/REFO/RP29/PMA0/CN12/RB15 (io), 47 RPI43/GD14/CN20/RD14 (io), 48 RP5/GD15/CN21/RD15 (io), 49 RP10/PMA9/CN17/RF4 (io), 50 RP17/PMA8/CN18/RF5 (io), 51 RP16/USBID/CN71/RF3 (io), 52 RP30/GD3/CN70/RF2 (io), 53 RP15/GD9/CN74/RF8 (io), 54 VBUS/CN73/RF7 (io), 56 D-/CN84/RG3 (io), 57 D+/CN83/RG2 (io), 58 SCL2/CN35/RA2 (io), 59 SDA2/PMA20/PMA4/CN36/RA3 (io), 60 TDI/PMA21/PMA3/CN37/RA4 (io), 61 TDO/CN38/RA5 (io), 63 OSCI/CLKI/CN23/RC12 (io), 64 OSCO/CLKO/CN22/RC15 (io), 66 SCL1/RPI36/PMA22/PMCS2/CN43/RA14 (io), 67 SDA1/RPI35/PMBE1/CN44/RA15 (io), 68 DMLN/RTCC/RP2/CN53/RD8 (io), 69 DPLN/RP4/GD10/PMACK2/CN54/RD9 (io), 70 RP3/PMA15/PMCS2/CN55/RD10 (io), 71 RP12/PMA14/PMCS1/CN56/RD11 (io), 72 DMH/RP11/INT0/CN49/RD0 (io), 73 SOSCI/C3IND/CN1/RC13 (io), 74 SOSCO/SCLKI/T1CK/C3INC/RPI37/CN0/RC14 (io), 76 VCPCON/RP24/GD7/VBUSCHG/CN50/RD1 (io), 77 DPH/RP23/GD11/PMACK1/CN51/RD2 (io), 78 RP22/PMBE0/CN52/RD3 (io), 79 RPI42/PMD12/CN57/RD12 (io), 80 PMD13/CN19/RD13 (io), 81 RP25/PMWR/CN13/RD4 (io), 82 RP20/PMRD/CN14/RD5 (io), 83 C3INB/PMD14/CN15/RD6 (io), 84 C3INA/SESSEND/PMD15/CN16/RD7 (io), 85 VCAP "External Filter Capacitor Connection (regulator enabled).", 86 ENVREG (in) "Voltage Regulator Enable.", 87 VBUSST/VCMPST1/VBUSVLD/PMD11/CN68/RF0 (io), 88 VCMPST2/SESSVLD/PMD10/CN69/RF1 (io), 89 PMD9/CN78/RG1 (io), 90 PMD8/CN77/RG0 (io), 91 AN23/GEN/CN39/RA6 (io), 92 AN22/PMA17/CN40/RA7 (io), 93 PMD0/CN58/RE0 (io), 94 PMD1/CN59/RE1 (io), 95 PMA16/CN81/RG14 (io), 96 VSYNC/CN79/RG12 (io), 97 HSYNC/CN80/RG13 (io), 98 PMD2/CN60/RE2 (io), 99 PMD3/CN61/RE3 (io), 100 PMD4/CN62/RE4 (io)
part B pins: 2 VDD (power) "Positive Supply for Peripheral Digital Logic and I/O Pins.", 15 VSS (power) "Ground Reference for Logic and I/O Pins.", 16 VDD (power) "Positive Supply for Peripheral Digital Logic and I/O Pins.", 30 AVDD (power) "Positive Supply for Analog modules.", 31 AVSS (power) "Ground Reference for Analog modules", 36 VSS (power) "Ground Reference for Logic and I/O Pins.", 37 VDD (power) "Positive Supply for Peripheral Digital Logic and I/O Pins.", 45 VSS (power) "Ground Reference for Logic and I/O Pins.", 46 VDD (power) "Positive Supply for Peripheral Digital Logic and I/O Pins.", 55 VUSB (power) "USB Voltage (3.3V).", 62 VDD (power) "Positive Supply for Peripheral Digital Logic and I/O Pins.", 65 VSS (power) "Ground Reference for Logic and I/O Pins.", 75 VSS (power) "Ground Reference for Logic and I/O Pins."

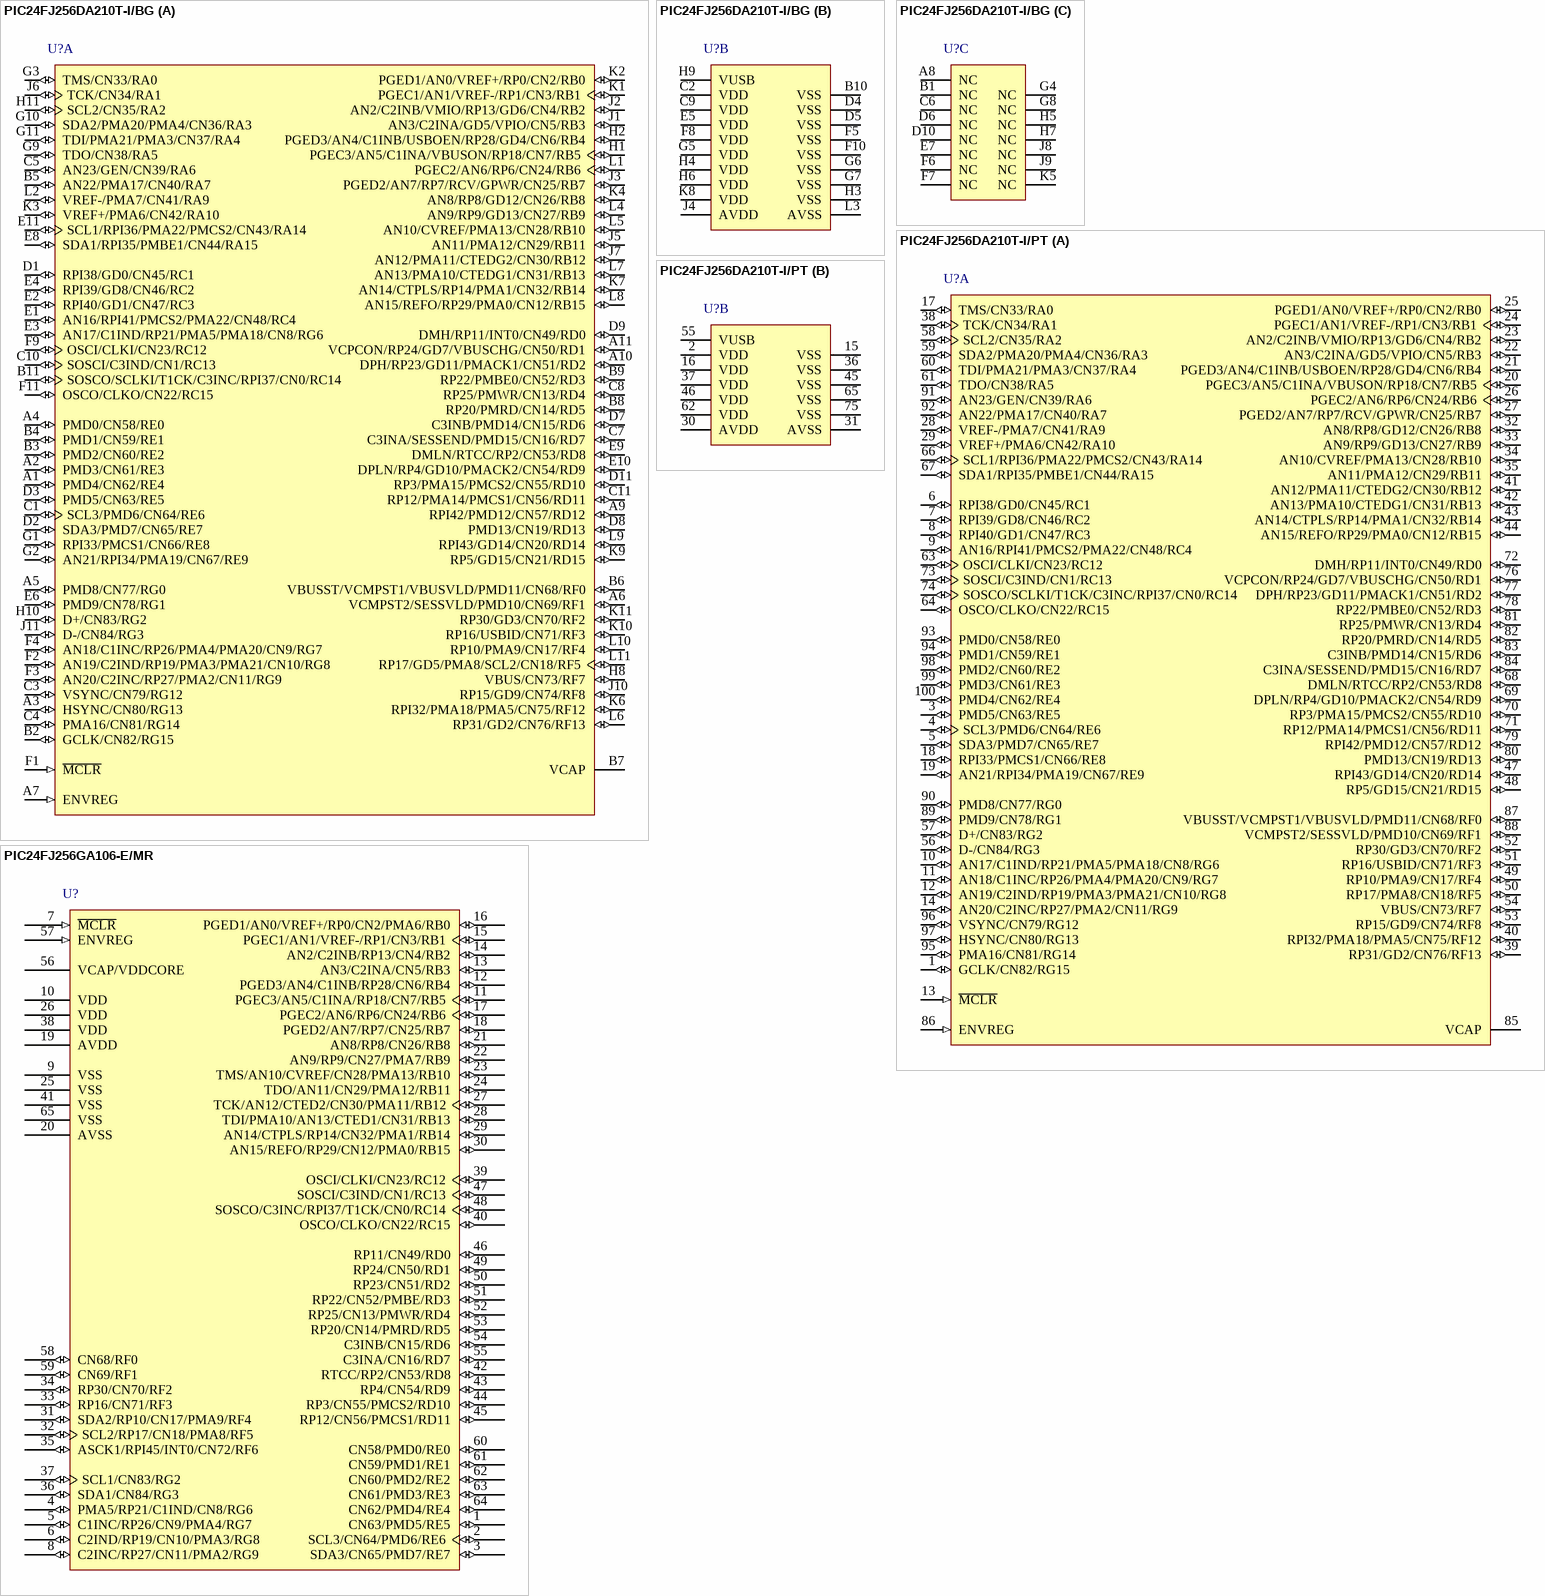
[diagram p103: symbols PIC24FJ256DA210T-I/BG to PIC24FJ256GA106-E/MR]

## PIC24FJ256DA210T-I/BG
designator U?
16-Bit Flash Microcontroller with Graphics Controller and USB On-The-Go, 16 MIPS, 84 I/O, EPMP, -40 to 85 degC, 121-pin TFBGA (BG121), Tape and Reel; Manufacturer: Microchip; PartNumber: PIC24FJ256DA210T-I/BG; DatasheetVersion: Rev. B; PackageVersion: C04-148D; PackageReference: TFBGA-BG121; PackageDescription: 121-Ball Plastic Thin Profile Ball Grid Array, 10 x 10 mm Body, 0.8 mm Pitch; Supplier 1: Digi-Key; Supplier Part Number 1: PIC24FJ256DA210T-I/BG-ND; Supplier 2: Newark; Supplier Part Number 2: 73R8660; Supplier 3: Mouser; Supplier Part Number 3: 579-PIC24FJ25210TIBG; Mounting Technology: Surface Mount; ComponentLink1Description: Manufacturer URL; ComponentLink1URL: http://www.microchip.com; ComponentLink2Description: Datasheet; ComponentLink2URL: http://ww1.microchip.com/downloads/en/DeviceDoc/39969b.pdf; ComponentLink3Description: Package Specification; ComponentLink3URL: http://www.microchip.com/stellent/groups/techpub_sg/documents/packagingspec/en012702.pdf; ComponentLink4Description: Product URL; ComponentLink4URL: http://www.microchip.com/PIC24FJ256DA210
footprint MCHP-TFBGA-BG121 (BGA, 121-Balls, Body 10x10mm, Pitch 0.8mm)
part A pins: A1 PMD4/CN62/RE4 (io), A2 PMD3/CN61/RE3 (io), A3 HSYNC/CN80/RG13 (io), A4 PMD0/CN58/RE0 (io), A5 PMD8/CN77/RG0 (io), A6 VCMPST2/SESSVLD/PMD10/CN69/RF1 (io), A7 ENVREG (in) "Voltage Regulator Enable.", A9 RPI42/PMD12/CN57/RD12 (io), A10 DPH/RP23/GD11/PMACK1/CN51/RD2 (io), A11 VCPCON/RP24/GD7/VBUSCHG/CN50/RD1 (io), B2 GCLK/CN82/RG15 (io), B3 PMD2/CN60/RE2 (io), B4 PMD1/CN59/RE1 (io), B5 AN22/PMA17/CN40/RA7 (io), B6 VBUSST/VCMPST1/VBUSVLD/PMD11/CN68/RF0 (io), B7 VCAP "External Filter Capacitor Connection (regulator enabled).", B8 RP20/PMRD/CN14/RD5 (io), B9 RP22/PMBE0/CN52/RD3 (io), B11 SOSCO/SCLKI/T1CK/C3INC/RPI37/CN0/RC14 (io), C1 SCL3/PMD6/CN64/RE6 (io), C3 VSYNC/CN79/RG12 (io), C4 PMA16/CN81/RG14 (io), C5 AN23/GEN/CN39/RA6 (io), C7 C3INA/SESSEND/PMD15/CN16/RD7 (io), C8 RP25/PMWR/CN13/RD4 (io), C10 SOSCI/C3IND/CN1/RC13 (io), C11 RP12/PMA14/PMCS1/CN56/RD11 (io), D1 RPI38/GD0/CN45/RC1 (io), D2 SDA3/PMD7/CN65/RE7 (io), D3 PMD5/CN63/RE5 (io), D7 C3INB/PMD14/CN15/RD6 (io), D8 PMD13/CN19/RD13 (io), D9 DMH/RP11/INT0/CN49/RD0 (io), D11 RP3/PMA15/PMCS2/CN55/RD10 (io), E1 AN16/RPI41/PMCS2/PMA22/CN48/RC4 (io), E2 RPI40/GD1/CN47/RC3 (io), E3 AN17/C1IND/RP21/PMA5/PMA18/CN8/RG6 (io), E4 RPI39/GD8/CN46/RC2 (io), E6 PMD9/CN78/RG1 (io), E8 SDA1/RPI35/PMBE1/CN44/RA15 (io), E9 DMLN/RTCC/RP2/CN53/RD8 (io), E10 DPLN/RP4/GD10/PMACK2/CN54/RD9 (io), E11 SCL1/RPI36/PMA22/PMCS2/CN43/RA14 (io), F1 ~{MCLR} (in) "Master Clear (device Reset) Input. This line is brought low to cause a Reset.", F2 AN19/C2IND/RP19/PMA3/PMA21/CN10/RG8 (io), F3 AN20/C2INC/RP27/PMA2/CN11/RG9 (io), F4 AN18/C1INC/RP26/PMA4/PMA20/CN9/RG7 (io), F9 OSCI/CLKI/CN23/RC12 (io), F11 OSCO/CLKO/CN22/RC15 (io), G1 RPI33/PMCS1/CN66/RE8 (io), G2 AN21/RPI34/PMA19/CN67/RE9 (io), G3 TMS/CN33/RA0 (io), G9 TDO/CN38/RA5 (io), G10 SDA2/PMA20/PMA4/CN36/RA3 (io), G11 TDI/PMA21/PMA3/CN37/RA4 (io), H1 PGEC3/AN5/C1INA/VBUSON/RP18/CN7/RB5 (io), H2 PGED3/AN4/C1INB/USBOEN/RP28/GD4/CN6/RB4 (io), H8 VBUS/CN73/RF7 (io), H10 D+/CN83/RG2 (io), H11 SCL2/CN35/RA2 (io), J1 AN3/C2INA/GD5/VPIO/CN5/RB3 (io), J2 AN2/C2INB/VMIO/RP13/GD6/CN4/RB2 (io), J3 PGED2/AN7/RP7/RCV/GPWR/CN25/RB7 (io), J5 AN11/PMA12/CN29/RB11 (io), J6 TCK/CN34/RA1 (io), J7 AN12/PMA11/CTEDG2/CN30/RB12 (io), J10 RP15/GD9/CN74/RF8 (io), J11 D-/CN84/RG3 (io), K1 PGEC1/AN1/VREF-/RP1/CN3/RB1 (io), K2 PGED1/AN0/VREF+/RP0/CN2/RB0 (io), K3 VREF+/PMA6/CN42/RA10 (io), K4 AN8/RP8/GD12/CN26/RB8 (io), K6 RPI32/PMA18/PMA5/CN75/RF12 (io), K7 AN14/CTPLS/RP14/PMA1/CN32/RB14 (io), K9 RP5/GD15/CN21/RD15 (io), K10 RP16/USBID/CN71/RF3 (io), K11 RP30/GD3/CN70/RF2 (io), L1 PGEC2/AN6/RP6/CN24/RB6 (io), L2 VREF-/PMA7/CN41/RA9 (io), L4 AN9/RP9/GD13/CN27/RB9 (io), L5 AN10/CVREF/PMA13/CN28/RB10 (io), L6 RP31/GD2/CN76/RF13 (io), L7 AN13/PMA10/CTEDG1/CN31/RB13 (io), L8 AN15/REFO/RP29/PMA0/CN12/RB15 (io), L9 RPI43/GD14/CN20/RD14 (io), L10 RP10/PMA9/CN17/RF4 (io), L11 RP17/GD5/PMA8/SCL2/CN18/RF5 (io)
part B pins: B10 VSS (power) "Ground Reference for Logic and I/O Pins.", C2 VDD (power) "Positive Supply for Peripheral Digital Logic and I/O Pins.", C9 VDD (power) "Positive Supply for Peripheral Digital Logic and I/O Pins.", D4 VSS (power) "Ground Reference for Logic and I/O Pins.", D5 VSS (power) "Ground Reference for Logic and I/O Pins.", E5 VDD (power) "Positive Supply for Peripheral Digital Logic and I/O Pins.", F5 VSS (power) "Ground Reference for Logic and I/O Pins.", F8 VDD (power) "Positive Supply for Peripheral Digital Logic and I/O Pins.", F10 VSS (power) "Ground Reference for Logic and I/O Pins.", G5 VDD (power) "Positive Supply for Peripheral Digital Logic and I/O Pins.", G6 VSS (power) "Ground Reference for Logic and I/O Pins.", G7 VSS (power) "Ground Reference for Logic and I/O Pins.", H3 VSS (power) "Ground Reference for Logic and I/O Pins.", H4 VDD (power) "Positive Supply for Peripheral Digital Logic and I/O Pins.", H6 VDD (power) "Positive Supply for Peripheral Digital Logic and I/O Pins.", H9 VUSB (power) "USB Voltage (3.3V).", J4 AVDD (power) "Positive Supply for Analog modules.", K8 VDD (power) "Positive Supply for Peripheral Digital Logic and I/O Pins.", L3 AVSS (power) "Ground Reference for Analog modules."
part C pins: A8 NC, B1 NC, C6 NC, D6 NC, D10 NC, E7 NC, F6 NC, F7 NC, G4 NC, G8 NC, H5 NC, H7 NC, J8 NC, J9 NC, K5 NC

## PIC24FJ256DA210T-I/PT
designator U?
16-Bit Flash Microcontroller with Graphics Controller and USB On-The-Go, 16 MIPS, 84 I/O, EPMP, -40 to 85 degC, 100-pin TQFP (PT100), Tape and Reel; Manufacturer: Microchip; PartNumber: PIC24FJ256DA210T-I/PT; DatasheetVersion: Rev. B; PackageVersion: C04-100B; PackageReference: TQFP-PT100; PackageDescription: 100-Lead Plastic Thin Quad Flatpack, 12 x 12 mm Body, 0.4 mm Pitch; Supplier 1: Digi-Key; Supplier Part Number 1: PIC24FJ256DA210T-I/PT-ND; Supplier 2: Newark; Supplier Part Number 2: 73R8661; Supplier 3: Mouser; Supplier Part Number 3: 579-PIC24FJ256DA2IPT; Mounting Technology: Surface Mount; ComponentLink1Description: Manufacturer URL; ComponentLink1URL: http://www.microchip.com; ComponentLink2Description: Datasheet; ComponentLink2URL: http://ww1.microchip.com/downloads/en/DeviceDoc/39969b.pdf; ComponentLink3Description: Package Specification; ComponentLink3URL: http://www.microchip.com/stellent/groups/techpub_sg/documents/packagingspec/en012702.pdf; ComponentLink4Description: Product URL; ComponentLink4URL: http://www.microchip.com/PIC24FJ256DA210
footprint MCHP-TQFP-PT100_N (QFP, 100-Leads, Body 12x12mm, Pitch 0.4mm, IPC Medium Density)
footprint MCHP-TQFP-PT100_L (QFP, 100-Leads, Body 12x12mm, Pitch 0.4mm, IPC High Density)
footprint MCHP-TQFP-PT100_M (TQFP, 100-Leads, Body 12x12mm, Pitch 0.4mm, IPC Low Density)
part A pins: 1 GCLK/CN82/RG15 (io), 3 PMD5/CN63/RE5 (io), 4 SCL3/PMD6/CN64/RE6 (io), 5 SDA3/PMD7/CN65/RE7 (io), 6 RPI38/GD0/CN45/RC1 (io), 7 RPI39/GD8/CN46/RC2 (io), 8 RPI40/GD1/CN47/RC3 (io), 9 AN16/RPI41/PMCS2/PMA22/CN48/RC4 (io), 10 AN17/C1IND/RP21/PMA5/PMA18/CN8/RG6 (io), 11 AN18/C1INC/RP26/PMA4/PMA20/CN9/RG7 (io), 12 AN19/C2IND/RP19/PMA3/PMA21/CN10/RG8 (io), 13 ~{MCLR} (in) "Master Clear (device Reset) Input. This line is brought low to cause a Reset.", 14 AN20/C2INC/RP27/PMA2/CN11/RG9 (io), 17 TMS/CN33/RA0 (io), 18 RPI33/PMCS1/CN66/RE8 (io), 19 AN21/RPI34/PMA19/CN67/RE9 (io), 20 PGEC3/AN5/C1INA/VBUSON/RP18/CN7/RB5 (io), 21 PGED3/AN4/C1INB/USBOEN/RP28/GD4/CN6/RB4 (io), 22 AN3/C2INA/GD5/VPIO/CN5/RB3 (io), 23 AN2/C2INB/VMIO/RP13/GD6/CN4/RB2 (io), 24 PGEC1/AN1/VREF-/RP1/CN3/RB1 (io), 25 PGED1/AN0/VREF+/RP0/CN2/RB0 (io), 26 PGEC2/AN6/RP6/CN24/RB6 (io), 27 PGED2/AN7/RP7/RCV/GPWR/CN25/RB7 (io), 28 VREF-/PMA7/CN41/RA9 (io), 29 VREF+/PMA6/CN42/RA10 (io), 32 AN8/RP8/GD12/CN26/RB8 (io), 33 AN9/RP9/GD13/CN27/RB9 (io), 34 AN10/CVREF/PMA13/CN28/RB10 (io), 35 AN11/PMA12/CN29/RB11 (io), 38 TCK/CN34/RA1 (io), 39 RP31/GD2/CN76/RF13 (io), 40 RPI32/PMA18/PMA5/CN75/RF12 (io), 41 AN12/PMA11/CTEDG2/CN30/RB12 (io), 42 AN13/PMA10/CTEDG1/CN31/RB13 (io), 43 AN14/CTPLS/RP14/PMA1/CN32/RB14 (io), 44 AN15/REFO/RP29/PMA0/CN12/RB15 (io), 47 RPI43/GD14/CN20/RD14 (io), 48 RP5/GD15/CN21/RD15 (io), 49 RP10/PMA9/CN17/RF4 (io), 50 RP17/PMA8/CN18/RF5 (io), 51 RP16/USBID/CN71/RF3 (io), 52 RP30/GD3/CN70/RF2 (io), 53 RP15/GD9/CN74/RF8 (io), 54 VBUS/CN73/RF7 (io), 56 D-/CN84/RG3 (io), 57 D+/CN83/RG2 (io), 58 SCL2/CN35/RA2 (io), 59 SDA2/PMA20/PMA4/CN36/RA3 (io), 60 TDI/PMA21/PMA3/CN37/RA4 (io), 61 TDO/CN38/RA5 (io), 63 OSCI/CLKI/CN23/RC12 (io), 64 OSCO/CLKO/CN22/RC15 (io), 66 SCL1/RPI36/PMA22/PMCS2/CN43/RA14 (io), 67 SDA1/RPI35/PMBE1/CN44/RA15 (io), 68 DMLN/RTCC/RP2/CN53/RD8 (io), 69 DPLN/RP4/GD10/PMACK2/CN54/RD9 (io), 70 RP3/PMA15/PMCS2/CN55/RD10 (io), 71 RP12/PMA14/PMCS1/CN56/RD11 (io), 72 DMH/RP11/INT0/CN49/RD0 (io), 73 SOSCI/C3IND/CN1/RC13 (io), 74 SOSCO/SCLKI/T1CK/C3INC/RPI37/CN0/RC14 (io), 76 VCPCON/RP24/GD7/VBUSCHG/CN50/RD1 (io), 77 DPH/RP23/GD11/PMACK1/CN51/RD2 (io), 78 RP22/PMBE0/CN52/RD3 (io), 79 RPI42/PMD12/CN57/RD12 (io), 80 PMD13/CN19/RD13 (io), 81 RP25/PMWR/CN13/RD4 (io), 82 RP20/PMRD/CN14/RD5 (io), 83 C3INB/PMD14/CN15/RD6 (io), 84 C3INA/SESSEND/PMD15/CN16/RD7 (io), 85 VCAP "External Filter Capacitor Connection (regulator enabled).", 86 ENVREG (in) "Voltage Regulator Enable.", 87 VBUSST/VCMPST1/VBUSVLD/PMD11/CN68/RF0 (io), 88 VCMPST2/SESSVLD/PMD10/CN69/RF1 (io), 89 PMD9/CN78/RG1 (io), 90 PMD8/CN77/RG0 (io), 91 AN23/GEN/CN39/RA6 (io), 92 AN22/PMA17/CN40/RA7 (io), 93 PMD0/CN58/RE0 (io), 94 PMD1/CN59/RE1 (io), 95 PMA16/CN81/RG14 (io), 96 VSYNC/CN79/RG12 (io), 97 HSYNC/CN80/RG13 (io), 98 PMD2/CN60/RE2 (io), 99 PMD3/CN61/RE3 (io), 100 PMD4/CN62/RE4 (io)
part B pins: 2 VDD (power) "Positive Supply for Peripheral Digital Logic and I/O Pins.", 15 VSS (power) "Ground Reference for Logic and I/O Pins.", 16 VDD (power) "Positive Supply for Peripheral Digital Logic and I/O Pins.", 30 AVDD (power) "Positive Supply for Analog modules.", 31 AVSS (power) "Ground Reference for Analog modules", 36 VSS (power) "Ground Reference for Logic and I/O Pins.", 37 VDD (power) "Positive Supply for Peripheral Digital Logic and I/O Pins.", 45 VSS (power) "Ground Reference for Logic and I/O Pins.", 46 VDD (power) "Positive Supply for Peripheral Digital Logic and I/O Pins.", 55 VUSB (power) "USB Voltage (3.3V).", 62 VDD (power) "Positive Supply for Peripheral Digital Logic and I/O Pins.", 65 VSS (power) "Ground Reference for Logic and I/O Pins.", 75 VSS (power) "Ground Reference for Logic and I/O Pins."

## PIC24FJ256GA106-E/MR
designator U?
General Purpose 16-Bit Flash Microcontroller, 256KB Flash, 16KB SRAM, 64-pin QFN, Extended Temperature; Manufacturer: Microchip; PartNumber: PIC24FJ256GA106-E/MR; DatasheetVersion: revE, Nov-2010; PackageVersion: revBB, Aug-2009; PackageReference: QFN-MR64; PackageDescription: 64-Lead Plastic Quad Flat, No Lead Package (MR) - 9x9x0.9 mm Body [QFN]; Supplier 1: Digi-Key; Supplier Part Number 1: PIC24FJ256GA106-E/MR-ND; Supplier 2: Mouser; Supplier Part Number 2: 579-24FJ256GA106-EMR; Mounting Technology: Surface Mount; ComponentLink1Description: Manufacturer URL; ComponentLink1URL: http://www.microchip.com/; ComponentLink2Description: Datasheet; ComponentLink2URL: http://ww1.microchip.com/downloads/en/DeviceDoc/39905d.pdf; ComponentLink3Description: Package Specification; ComponentLink3URL: http://www.microchip.com/stellent/groups/techpub_sg/documents/packagingspec/en012702.pdf
footprint QFN-MR64_N (QFN, 64-Leads, Body 9x9mm, Pitch 0.5mm, Thermal Pad 7.5x7.5mm, IPC Medium Density)
footprint QFN-MR64_L (QFN, 64-Leads, Body 9x9mm, Pitch 0.5mm, Thermal Pad 7.5x7.5mm, IPC High Density)
footprint QFN-MR64_M (QFN, 64-Leads, Body 9x9mm, Pitch 0.5mm, Thermal Pad 7.5x7.5mm, IPC Low Density)
pins: 1 CN63/PMD5/RE5 (io), 2 SCL3/CN64/PMD6/RE6 (io), 3 SDA3/CN65/PMD7/RE7 (io), 4 PMA5/RP21/C1IND/CN8/RG6 (io), 5 C1INC/RP26/CN9/PMA4/RG7 (io), 6 C2IND/RP19/CN10/PMA3/RG8 (io), 7 ~{MCLR} (in), 8 C2INC/RP27/CN11/PMA2/RG9 (io), 9 VSS (power), 10 VDD (power), 11 PGEC3/AN5/C1INA/RP18/CN7/RB5 (io), 12 PGED3/AN4/C1INB/RP28/CN6/RB4 (io), 13 AN3/C2INA/CN5/RB3 (io), 14 AN2/C2INB/RP13/CN4/RB2 (io), 15 PGEC1/AN1/VREF-/RP1/CN3/RB1 (io), 16 PGED1/AN0/VREF+/RP0/CN2/PMA6/RB0 (io), 17 PGEC2/AN6/RP6/CN24/RB6 (io), 18 PGED2/AN7/RP7/CN25/RB7 (io), 19 AVDD (power), 20 AVSS (power), 21 AN8/RP8/CN26/RB8 (io), 22 AN9/RP9/CN27/PMA7/RB9 (io), 23 TMS/AN10/CVREF/CN28/PMA13/RB10 (io), 24 TDO/AN11/CN29/PMA12/RB11 (io), 25 VSS (power), 26 VDD (power), 27 TCK/AN12/CTED2/CN30/PMA11/RB12 (io), 28 TDI/PMA10/AN13/CTED1/CN31/RB13 (io), 29 AN14/CTPLS/RP14/CN32/PMA1/RB14 (io), 30 AN15/REFO/RP29/CN12/PMA0/RB15 (io), 31 SDA2/RP10/CN17/PMA9/RF4 (io), 32 SCL2/RP17/CN18/PMA8/RF5 (io), 33 RP16/CN71/RF3 (io), 34 RP30/CN70/RF2 (io), 35 ASCK1/RPI45/INT0/CN72/RF6 (io), 36 SDA1/CN84/RG3 (io), 37 SCL1/CN83/RG2 (io), 38 VDD (power), 39 OSCI/CLKI/CN23/RC12 (io), 40 OSCO/CLKO/CN22/RC15 (io), 41 VSS (power), 42 RTCC/RP2/CN53/RD8 (io), 43 RP4/CN54/RD9 (io), 44 RP3/CN55/PMCS2/RD10 (io), 45 RP12/CN56/PMCS1/RD11 (io), 46 RP11/CN49/RD0 (io), 47 SOSCI/C3IND/CN1/RC13 (io), 48 SOSCO/C3INC/RPI37/T1CK/CN0/RC14 (io), 49 RP24/CN50/RD1 (io), 50 RP23/CN51/RD2 (io), 51 RP22/CN52/PMBE/RD3 (io), 52 RP25/CN13/PMWR/RD4 (io), 53 RP20/CN14/PMRD/RD5 (io), 54 C3INB/CN15/RD6 (io), 55 C3INA/CN16/RD7 (io), 56 VCAP/VDDCORE (power), 57 ENVREG (in), 58 CN68/RF0 (io), 59 CN69/RF1 (io), 60 CN58/PMD0/RE0 (io), 61 CN59/PMD1/RE1 (io), 62 CN60/PMD2/RE2 (io), 63 CN61/PMD3/RE3 (io), 64 CN62/PMD4/RE4 (io), 65 VSS (power)

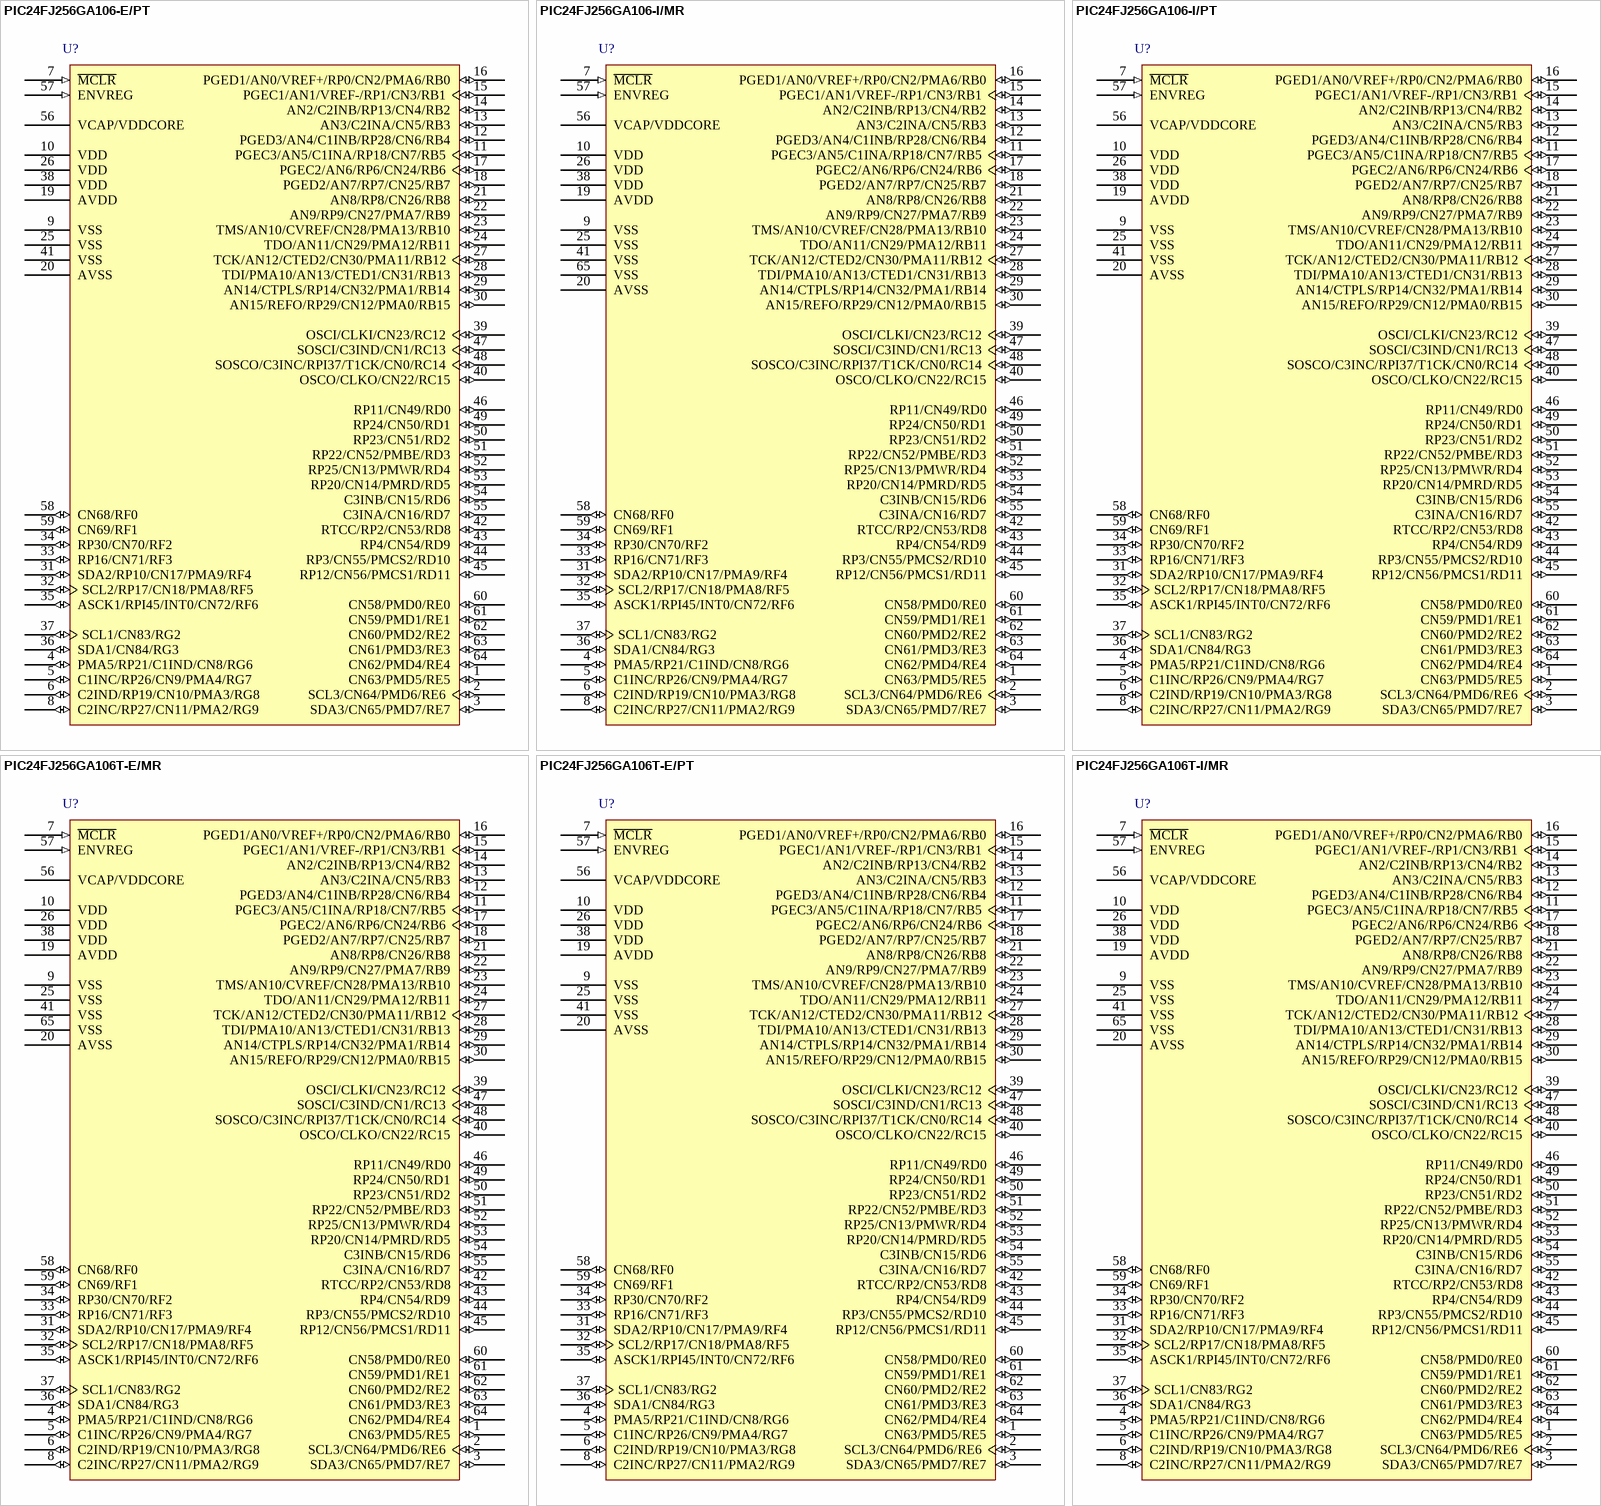
[diagram p104: symbols PIC24FJ256GA106-E/PT to PIC24FJ256GA106T-I/MR]